# Altium integrated library Motorola Microcontroller 8-Bit.IntLib: 909 symbols (part 24 of 31)
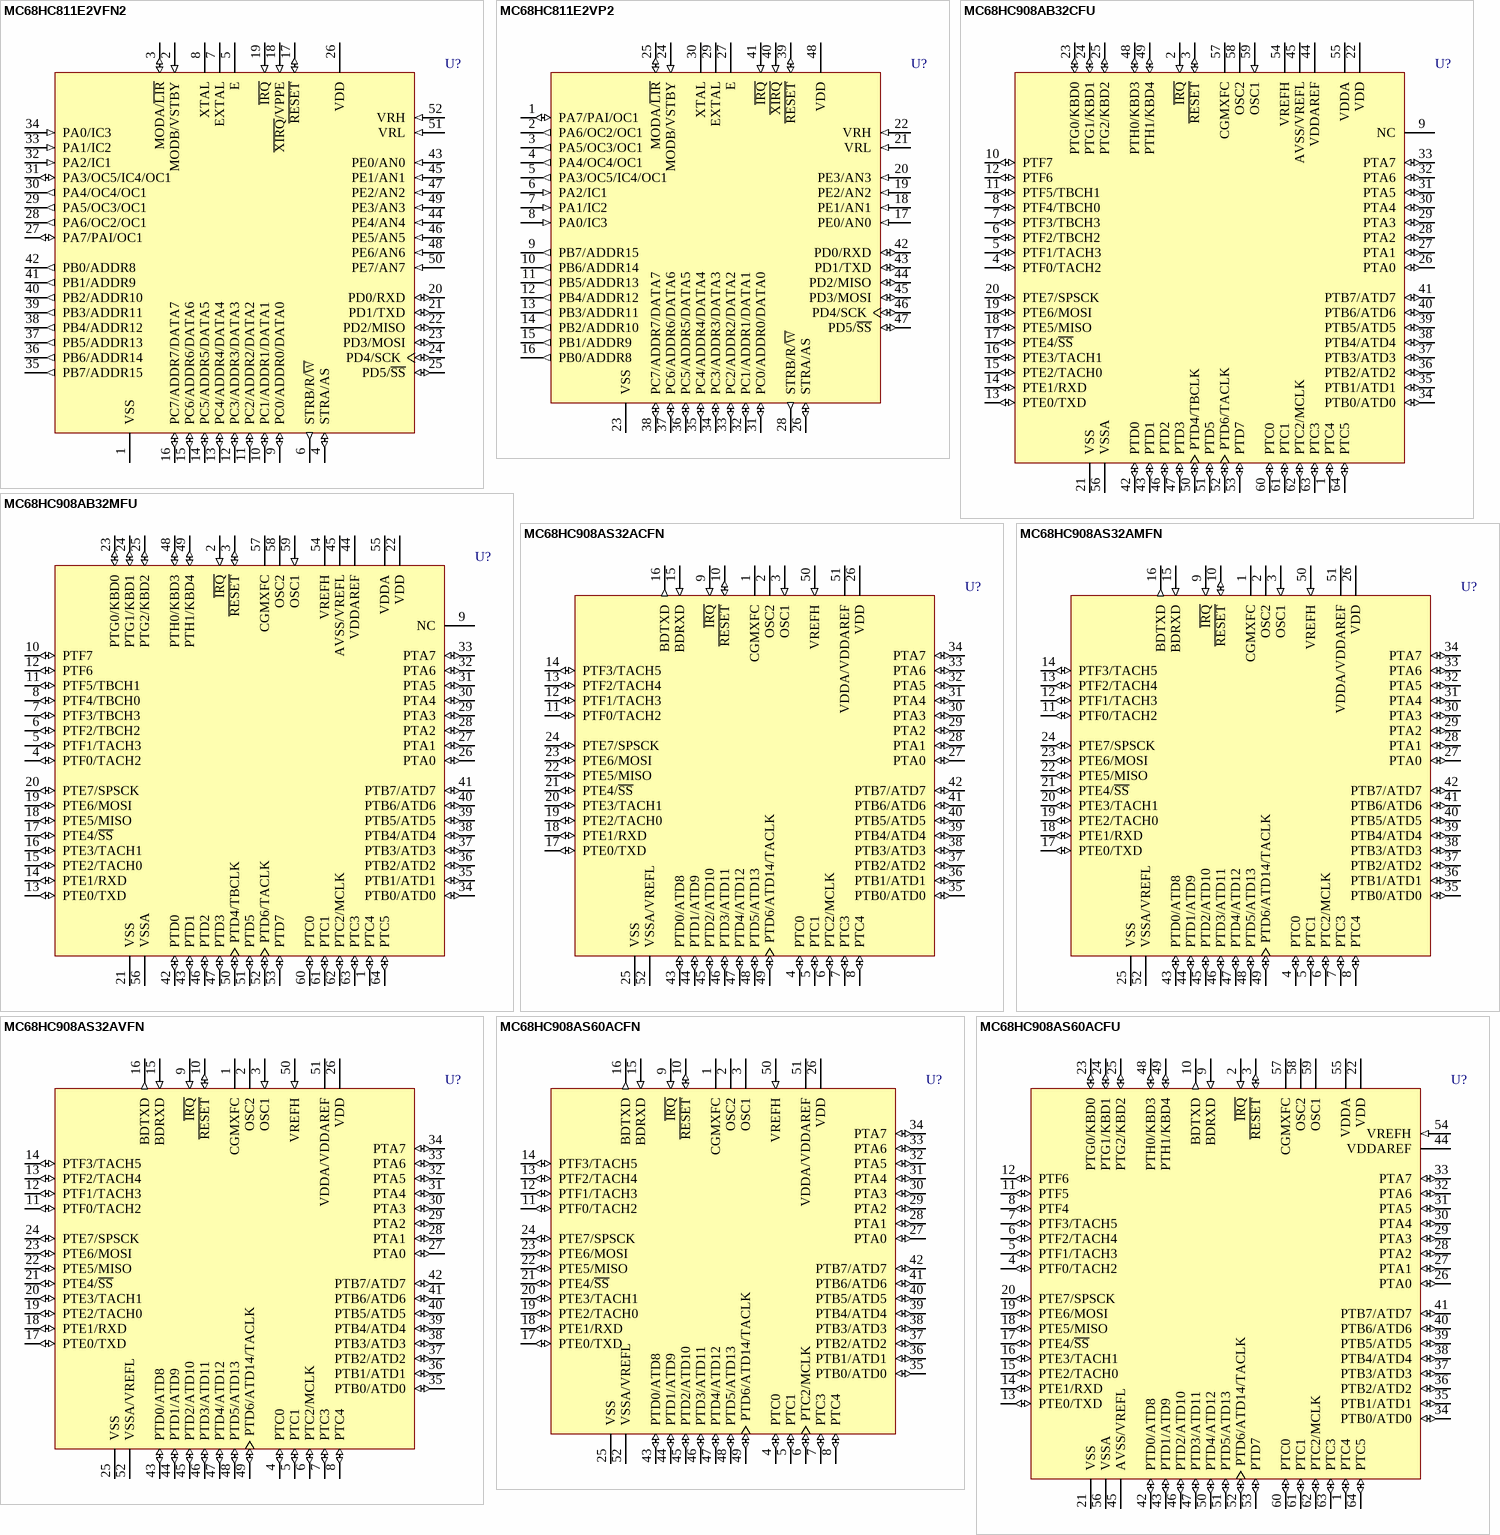
[diagram p136: symbols MC68HC811E2VFN2 to MC68HC908AS60ACFU]

## MC68HC908AB32CFU
designator U?
8-Bit Microcontroller; Published: 17-Jan-2003; LatestRevisionDate: 13-Apr-2006; LatestRevisionNote: IPC-7351 Footprint Added.; DatasheetVersion: Rev 1.0, 2000; PackageVersion: rev2, 2000; PackageReference: 840B-01; Publisher: Altium Limited; PackageDescription: 64-Pin Quad Flat Pack 0.8 mm Pitch; Code_IPC: QFP80P1720X1720-64; ComponentLink1Description: Manufacturer Link; ComponentLink1URL: http://www.freescale.com/; ComponentLink2Description: Datasheet; ComponentLink2URL: http://www.freescale.com/files/microcontrollers/doc/data_sheet/MC68HC908AB32.pdf
footprint 840B-01_N (QFP, 64-Leads, Body 14x14mm, Pitch 0.8mm, IPC Medium Density)
footprint 840B-01_L (QFP, 64-Leads, Body 14x14mm, Pitch 0.8mm, IPC High Density)
footprint 840B-01_M (QFP, 64-Leads, Body 14x14mm, Pitch 0.8mm, IPC Low Density)
3D model MC68HC908-840B-01 (64-Pin Quad Flat Pack 0.8 mm Pitch)
pins: 1 PTC4 (io), 2 ~{IRQ} (in), 3 ~{RESET} (io), 4 PTF0/TACH2 (io), 5 PTF1/TACH3 (io), 6 PTF2/TBCH2 (io), 7 PTF3/TBCH3 (io), 8 PTF4/TBCH0 (io), 9 NC, 10 PTF7 (io), 11 PTF5/TBCH1 (io), 12 PTF6 (io), 13 PTE0/TXD (io), 14 PTE1/RXD (io), 15 PTE2/TACH0 (io), 16 PTE3/TACH1 (io), 17 PTE4/~{SS} (io), 18 PTE5/MISO (io), 19 PTE6/MOSI (io), 20 PTE7/SPSCK (io), 21 VSS (power), 22 VDD (power), 23 PTG0/KBD0 (io), 24 PTG1/KBD1 (io), 25 PTG2/KBD2 (io), 26 PTA0 (io), 27 PTA1 (io), 28 PTA2 (io), 29 PTA3 (io), 30 PTA4 (io), 31 PTA5 (io), 32 PTA6 (io), 33 PTA7 (io), 34 PTB0/ATD0 (io), 35 PTB1/ATD1 (io), 36 PTB2/ATD2 (io), 37 PTB3/ATD3 (io), 38 PTB4/ATD4 (io), 39 PTB5/ATD5 (io), 40 PTB6/ATD6 (io), 41 PTB7/ATD7 (io), 42 PTD0 (io), 43 PTD1 (io), 44 VDDAREF (power), 45 AVSS/VREFL (power), 46 PTD2 (io), 47 PTD3 (io), 48 PTH0/KBD3 (io), 49 PTH1/KBD4 (io), 50 PTD4/TBCLK (io), 51 PTD5 (io), 52 PTD6/TACLK (io), 53 PTD7 (io), 54 VREFH (power), 55 VDDA (power), 56 VSSA (power), 57 CGMXFC, 58 OSC2, 59 OSC1 (in), 60 PTC0 (io), 61 PTC1 (io), 62 PTC2/MCLK (io), 63 PTC3 (io), 64 PTC5 (io)

## MC68HC908AB32MFU
designator U?
8-Bit Microcontroller; Published: 17-Jan-2003; LatestRevisionDate: 13-Apr-2006; LatestRevisionNote: IPC-7351 Footprint Added.; DatasheetVersion: Rev 1.0, 2000; PackageVersion: rev2, 2000; PackageReference: 840B-01; Publisher: Altium Limited; PackageDescription: 64-Pin Quad Flat Pack 0.8 mm Pitch; Code_IPC: QFP80P1720X1720-64; ComponentLink1Description: Manufacturer Link; ComponentLink1URL: http://www.freescale.com/; ComponentLink2Description: Datasheet; ComponentLink2URL: http://www.freescale.com/files/microcontrollers/doc/data_sheet/MC68HC908AB32.pdf
footprint 840B-01_N (QFP, 64-Leads, Body 14x14mm, Pitch 0.8mm, IPC Medium Density)
footprint 840B-01_L (QFP, 64-Leads, Body 14x14mm, Pitch 0.8mm, IPC High Density)
footprint 840B-01_M (QFP, 64-Leads, Body 14x14mm, Pitch 0.8mm, IPC Low Density)
3D model MC68HC908-840B-01 (64-Pin Quad Flat Pack 0.8 mm Pitch)
pins: 1 PTC4 (io), 2 ~{IRQ} (in), 3 ~{RESET} (io), 4 PTF0/TACH2 (io), 5 PTF1/TACH3 (io), 6 PTF2/TBCH2 (io), 7 PTF3/TBCH3 (io), 8 PTF4/TBCH0 (io), 9 NC, 10 PTF7 (io), 11 PTF5/TBCH1 (io), 12 PTF6 (io), 13 PTE0/TXD (io), 14 PTE1/RXD (io), 15 PTE2/TACH0 (io), 16 PTE3/TACH1 (io), 17 PTE4/~{SS} (io), 18 PTE5/MISO (io), 19 PTE6/MOSI (io), 20 PTE7/SPSCK (io), 21 VSS (power), 22 VDD (power), 23 PTG0/KBD0 (io), 24 PTG1/KBD1 (io), 25 PTG2/KBD2 (io), 26 PTA0 (io), 27 PTA1 (io), 28 PTA2 (io), 29 PTA3 (io), 30 PTA4 (io), 31 PTA5 (io), 32 PTA6 (io), 33 PTA7 (io), 34 PTB0/ATD0 (io), 35 PTB1/ATD1 (io), 36 PTB2/ATD2 (io), 37 PTB3/ATD3 (io), 38 PTB4/ATD4 (io), 39 PTB5/ATD5 (io), 40 PTB6/ATD6 (io), 41 PTB7/ATD7 (io), 42 PTD0 (io), 43 PTD1 (io), 44 VDDAREF (power), 45 AVSS/VREFL (power), 46 PTD2 (io), 47 PTD3 (io), 48 PTH0/KBD3 (io), 49 PTH1/KBD4 (io), 50 PTD4/TBCLK (io), 51 PTD5 (io), 52 PTD6/TACLK (io), 53 PTD7 (io), 54 VREFH (power), 55 VDDA (power), 56 VSSA (power), 57 CGMXFC, 58 OSC2, 59 OSC1 (in), 60 PTC0 (io), 61 PTC1 (io), 62 PTC2/MCLK (io), 63 PTC3 (io), 64 PTC5 (io)

## MC68HC908AS32ACFN
designator U?
8-Bit Microcontroller; Published: 17-Jan-2003; LatestRevisionDate: 13-Apr-2006; LatestRevisionNote: IPC-7351 Footprint Added.; DatasheetVersion: Rev 0.0, 5/2001; PackageVersion: rev3, 1997; PackageReference: 778-02; Publisher: Altium Limited; PackageDescription: 52-Pin Plastic Leaded Chip Carrier 1.27 mm Pitch; ComponentLink1Description: Manufacturer Link; ComponentLink1URL: http://www.freescale.com/
footprint 778-02_N (Leaded Chip Carrier, 52-Leads, Body 19x19mm, Pitch 1.27mm, IPC Medium Density)
footprint 778-02_L (Leaded Chip Carrier, 52-Leads, Body 19x19mm, Pitch 1.27mm, IPC High Density)
footprint 778-02_M (Leaded Chip Carrier, 52-Leads, Body 19x19mm, Pitch 1.27mm, IPC Low Density)
3D model MC68HC908-778-02 (52-Pin Plastic Leaded Chip Carrier 1.27 mm Pitch)
pins: 1 CGMXFC, 2 OSC2, 3 OSC1 (in), 4 PTC0 (io), 5 PTC1 (io), 6 PTC2/MCLK (io), 7 PTC3 (io), 8 PTC4 (io), 9 ~{IRQ} (in), 10 ~{RESET} (io), 11 PTF0/TACH2 (io), 12 PTF1/TACH3 (io), 13 PTF2/TACH4 (io), 14 PTF3/TACH5 (io), 15 BDRXD (in), 16 BDTXD (out), 17 PTE0/TXD (io), 18 PTE1/RXD (io), 19 PTE2/TACH0 (io), 20 PTE3/TACH1 (io), 21 PTE4/~{SS} (io), 22 PTE5/MISO (io), 23 PTE6/MOSI (io), 24 PTE7/SPSCK (io), 25 VSS (power), 26 VDD (power), 27 PTA0 (io), 28 PTA1 (io), 29 PTA2 (io), 30 PTA3 (io), 31 PTA4 (io), 32 PTA5 (io), 33 PTA6 (io), 34 PTA7 (io), 35 PTB0/ATD0 (io), 36 PTB1/ATD1 (io), 37 PTB2/ATD2 (io), 38 PTB3/ATD3 (io), 39 PTB4/ATD4 (io), 40 PTB5/ATD5 (io), 41 PTB6/ATD6 (io), 42 PTB7/ATD7 (io), 43 PTD0/ATD8 (io), 44 PTD1/ATD9 (io), 45 PTD2/ATD10 (io), 46 PTD3/ATD11 (io), 47 PTD4/ATD12 (io), 48 PTD5/ATD13 (io), 49 PTD6/ATD14/TACLK (io), 50 VREFH (in), 51 VDDA/VDDAREF (power), 52 VSSA/VREFL (power)

## MC68HC908AS32AMFN
designator U?
8-Bit Microcontroller; Published: 17-Jan-2003; LatestRevisionDate: 13-Apr-2006; LatestRevisionNote: IPC-7351 Footprint Added.; DatasheetVersion: Rev 0.0, 5/2001; PackageVersion: rev3, 1997; PackageReference: 778-02; Publisher: Altium Limited; PackageDescription: 52-Pin Plastic Leaded Chip Carrier 1.27 mm Pitch; ComponentLink1Description: Manufacturer Link; ComponentLink1URL: http://www.freescale.com/
footprint 778-02_N (Leaded Chip Carrier, 52-Leads, Body 19x19mm, Pitch 1.27mm, IPC Medium Density)
footprint 778-02_L (Leaded Chip Carrier, 52-Leads, Body 19x19mm, Pitch 1.27mm, IPC High Density)
footprint 778-02_M (Leaded Chip Carrier, 52-Leads, Body 19x19mm, Pitch 1.27mm, IPC Low Density)
3D model MC68HC908-778-02 (52-Pin Plastic Leaded Chip Carrier 1.27 mm Pitch)
pins: 1 CGMXFC, 2 OSC2, 3 OSC1 (in), 4 PTC0 (io), 5 PTC1 (io), 6 PTC2/MCLK (io), 7 PTC3 (io), 8 PTC4 (io), 9 ~{IRQ} (in), 10 ~{RESET} (io), 11 PTF0/TACH2 (io), 12 PTF1/TACH3 (io), 13 PTF2/TACH4 (io), 14 PTF3/TACH5 (io), 15 BDRXD (in), 16 BDTXD (out), 17 PTE0/TXD (io), 18 PTE1/RXD (io), 19 PTE2/TACH0 (io), 20 PTE3/TACH1 (io), 21 PTE4/~{SS} (io), 22 PTE5/MISO (io), 23 PTE6/MOSI (io), 24 PTE7/SPSCK (io), 25 VSS (power), 26 VDD (power), 27 PTA0 (io), 28 PTA1 (io), 29 PTA2 (io), 30 PTA3 (io), 31 PTA4 (io), 32 PTA5 (io), 33 PTA6 (io), 34 PTA7 (io), 35 PTB0/ATD0 (io), 36 PTB1/ATD1 (io), 37 PTB2/ATD2 (io), 38 PTB3/ATD3 (io), 39 PTB4/ATD4 (io), 40 PTB5/ATD5 (io), 41 PTB6/ATD6 (io), 42 PTB7/ATD7 (io), 43 PTD0/ATD8 (io), 44 PTD1/ATD9 (io), 45 PTD2/ATD10 (io), 46 PTD3/ATD11 (io), 47 PTD4/ATD12 (io), 48 PTD5/ATD13 (io), 49 PTD6/ATD14/TACLK (io), 50 VREFH (in), 51 VDDA/VDDAREF (power), 52 VSSA/VREFL (power)

## MC68HC908AS32AVFN
designator U?
8-Bit Microcontroller; Published: 17-Jan-2003; LatestRevisionDate: 13-Apr-2006; LatestRevisionNote: IPC-7351 Footprint Added.; DatasheetVersion: Rev 0.0, 5/2001; PackageVersion: rev3, 1997; PackageReference: 778-02; Publisher: Altium Limited; PackageDescription: 52-Pin Plastic Leaded Chip Carrier 1.27 mm Pitch; ComponentLink1Description: Manufacturer Link; ComponentLink1URL: http://www.freescale.com/
footprint 778-02_N (Leaded Chip Carrier, 52-Leads, Body 19x19mm, Pitch 1.27mm, IPC Medium Density)
footprint 778-02_L (Leaded Chip Carrier, 52-Leads, Body 19x19mm, Pitch 1.27mm, IPC High Density)
footprint 778-02_M (Leaded Chip Carrier, 52-Leads, Body 19x19mm, Pitch 1.27mm, IPC Low Density)
3D model MC68HC908-778-02 (52-Pin Plastic Leaded Chip Carrier 1.27 mm Pitch)
pins: 1 CGMXFC, 2 OSC2, 3 OSC1 (in), 4 PTC0 (io), 5 PTC1 (io), 6 PTC2/MCLK (io), 7 PTC3 (io), 8 PTC4 (io), 9 ~{IRQ} (in), 10 ~{RESET} (io), 11 PTF0/TACH2 (io), 12 PTF1/TACH3 (io), 13 PTF2/TACH4 (io), 14 PTF3/TACH5 (io), 15 BDRXD (in), 16 BDTXD (out), 17 PTE0/TXD (io), 18 PTE1/RXD (io), 19 PTE2/TACH0 (io), 20 PTE3/TACH1 (io), 21 PTE4/~{SS} (io), 22 PTE5/MISO (io), 23 PTE6/MOSI (io), 24 PTE7/SPSCK (io), 25 VSS (power), 26 VDD (power), 27 PTA0 (io), 28 PTA1 (io), 29 PTA2 (io), 30 PTA3 (io), 31 PTA4 (io), 32 PTA5 (io), 33 PTA6 (io), 34 PTA7 (io), 35 PTB0/ATD0 (io), 36 PTB1/ATD1 (io), 37 PTB2/ATD2 (io), 38 PTB3/ATD3 (io), 39 PTB4/ATD4 (io), 40 PTB5/ATD5 (io), 41 PTB6/ATD6 (io), 42 PTB7/ATD7 (io), 43 PTD0/ATD8 (io), 44 PTD1/ATD9 (io), 45 PTD2/ATD10 (io), 46 PTD3/ATD11 (io), 47 PTD4/ATD12 (io), 48 PTD5/ATD13 (io), 49 PTD6/ATD14/TACLK (io), 50 VREFH (in), 51 VDDA/VDDAREF (power), 52 VSSA/VREFL (power)

## MC68HC908AS60ACFN
designator U?
8-Bit Microcontroller; Published: 17-Jan-2003; LatestRevisionDate: 13-Apr-2006; LatestRevisionNote: IPC-7351 Footprint Added.; DatasheetVersion: Rev 2, 2001; PackageVersion: rev3, 1997; PackageReference: 778-02; Publisher: Altium Limited; PackageDescription: 52-Pin Plastic Leaded Chip Carrier 1.27 mm Pitch; ComponentLink1Description: Manufacturer Link; ComponentLink1URL: http://www.freescale.com/
footprint 778-02_N (Leaded Chip Carrier, 52-Leads, Body 19x19mm, Pitch 1.27mm, IPC Medium Density)
footprint 778-02_L (Leaded Chip Carrier, 52-Leads, Body 19x19mm, Pitch 1.27mm, IPC High Density)
footprint 778-02_M (Leaded Chip Carrier, 52-Leads, Body 19x19mm, Pitch 1.27mm, IPC Low Density)
3D model MC68HC908-778-02 (52-Pin Plastic Leaded Chip Carrier 1.27 mm Pitch)
pins: 1 CGMXFC, 2 OSC2, 3 OSC1, 4 PTC0 (io), 5 PTC1 (io), 6 PTC2/MCLK (io), 7 PTC3 (io), 8 PTC4 (io), 9 ~{IRQ} (in), 10 ~{RESET} (io), 11 PTF0/TACH2 (io), 12 PTF1/TACH3 (io), 13 PTF2/TACH4 (io), 14 PTF3/TACH5 (io), 15 BDRXD (in), 16 BDTXD (out), 17 PTE0/TXD (io), 18 PTE1/RXD (io), 19 PTE2/TACH0 (io), 20 PTE3/TACH1 (io), 21 PTE4/~{SS} (io), 22 PTE5/MISO (io), 23 PTE6/MOSI (io), 24 PTE7/SPSCK (io), 25 VSS (power), 26 VDD (power), 27 PTA0 (io), 28 PTA1 (io), 29 PTA2 (io), 30 PTA3 (io), 31 PTA4 (io), 32 PTA5 (io), 33 PTA6 (io), 34 PTA7 (io), 35 PTB0/ATD0 (io), 36 PTB1/ATD1 (io), 37 PTB2/ATD2 (io), 38 PTB3/ATD3 (io), 39 PTB4/ATD4 (io), 40 PTB5/ATD5 (io), 41 PTB6/ATD6 (io), 42 PTB7/ATD7 (io), 43 PTD0/ATD8 (io), 44 PTD1/ATD9 (io), 45 PTD2/ATD10 (io), 46 PTD3/ATD11 (io), 47 PTD4/ATD12 (io), 48 PTD5/ATD13 (io), 49 PTD6/ATD14/TACLK (io), 50 VREFH (in), 51 VDDA/VDDAREF (power), 52 VSSA/VREFL (power)

## MC68HC908AS60ACFU
designator U?
8-Bit Microcontroller; Published: 17-Jan-2003; LatestRevisionDate: 13-Apr-2006; LatestRevisionNote: IPC-7351 Footprint Added.; DatasheetVersion: Rev 2, 2001; PackageVersion: rev2, 2000; PackageReference: 840B-01; Publisher: Altium Limited; PackageDescription: 64-Pin Quad Flat Pack 0.8 mm Pitch; Code_IPC: QFP80P1720X1720-64; ComponentLink1Description: Manufacturer Link; ComponentLink1URL: http://www.freescale.com/
footprint 840B-01_N (QFP, 64-Leads, Body 14x14mm, Pitch 0.8mm, IPC Medium Density)
footprint 840B-01_L (QFP, 64-Leads, Body 14x14mm, Pitch 0.8mm, IPC High Density)
footprint 840B-01_M (QFP, 64-Leads, Body 14x14mm, Pitch 0.8mm, IPC Low Density)
3D model MC68HC908-840B-01 (64-Pin Quad Flat Pack 0.8 mm Pitch)
pins: 1 PTC4 (io), 2 ~{IRQ} (in), 3 ~{RESET} (io), 4 PTF0/TACH2 (io), 5 PTF1/TACH3 (io), 6 PTF2/TACH4 (io), 7 PTF3/TACH5 (io), 8 PTF4 (io), 9 BDRXD (in), 10 BDTXD (out), 11 PTF5 (io), 12 PTF6 (io), 13 PTE0/TXD (io), 14 PTE1/RXD (io), 15 PTE2/TACH0 (io), 16 PTE3/TACH1 (io), 17 PTE4/~{SS} (io), 18 PTE5/MISO (io), 19 PTE6/MOSI (io), 20 PTE7/SPSCK (io), 21 VSS (power), 22 VDD (power), 23 PTG0/KBD0 (io), 24 PTG1/KBD1 (io), 25 PTG2/KBD2 (io), 26 PTA0 (io), 27 PTA1 (io), 28 PTA2 (io), 29 PTA3 (io), 30 PTA4 (io), 31 PTA5 (io), 32 PTA6 (io), 33 PTA7 (io), 34 PTB0/ATD0 (io), 35 PTB1/ATD1 (io), 36 PTB2/ATD2 (io), 37 PTB3/ATD3 (io), 38 PTB4/ATD4 (io), 39 PTB5/ATD5 (io), 40 PTB6/ATD6 (io), 41 PTB7/ATD7 (io), 42 PTD0/ATD8 (io), 43 PTD1/ATD9 (io), 44 VDDAREF (power), 45 AVSS/VREFL (power), 46 PTD2/ATD10 (io), 47 PTD3/ATD11 (io), 48 PTH0/KBD3 (io), 49 PTH1/KBD4 (io), 50 PTD4/ATD12 (io), 51 PTD5/ATD13 (io), 52 PTD6/ATD14/TACLK (io), 53 PTD7 (io), 54 VREFH (in), 55 VDDA (power), 56 VSSA (power), 57 CGMXFC, 58 OSC2, 59 OSC1, 60 PTC0 (io), 61 PTC1 (io), 62 PTC2/MCLK (io), 63 PTC3 (io), 64 PTC5 (io)

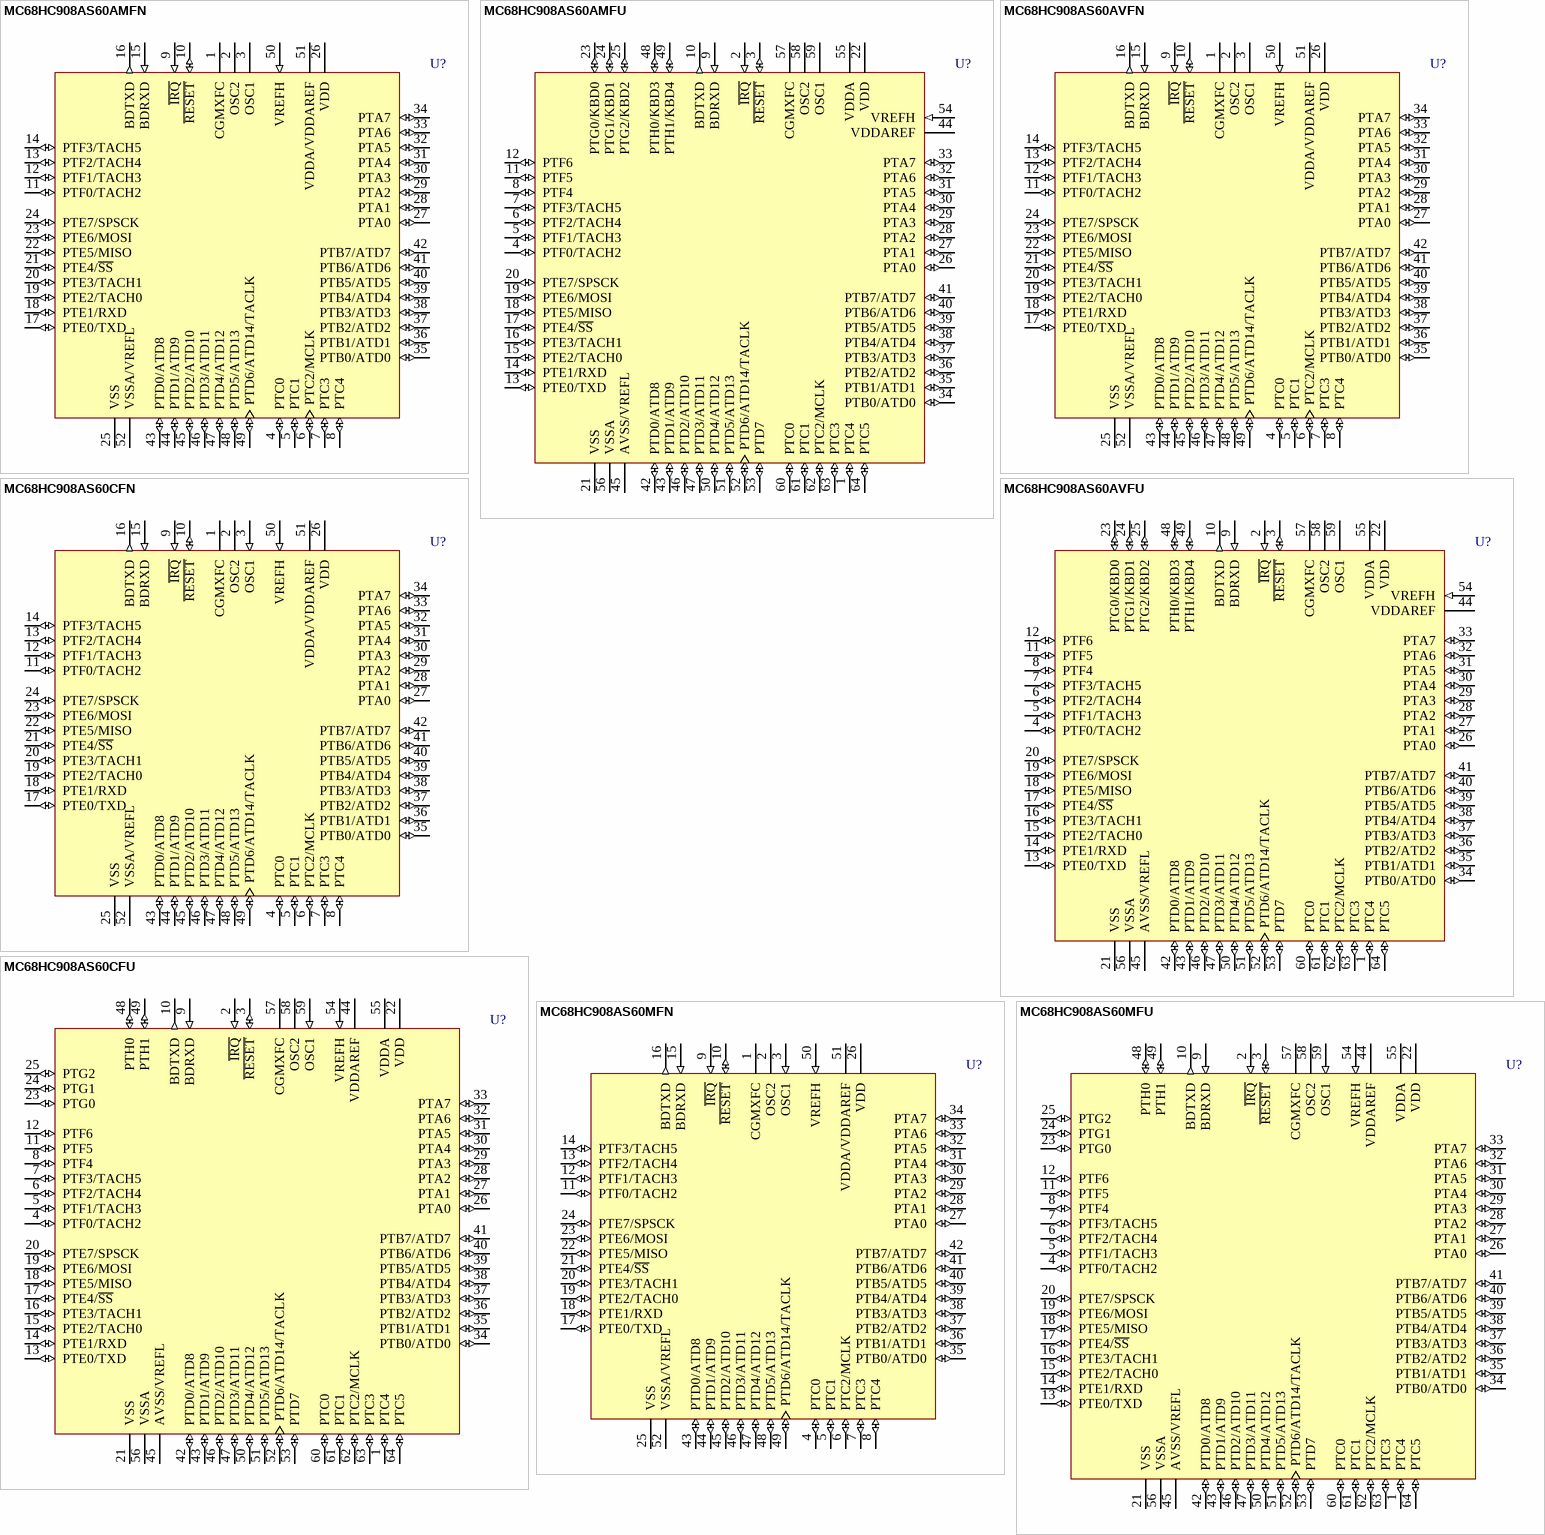
[diagram p91: symbols MC68HC908AS60AMFN to MC68HC908AS60MFU]

## MC68HC908AS60AMFN
designator U?
8-Bit Microcontroller; Published: 17-Jan-2003; LatestRevisionDate: 13-Apr-2006; LatestRevisionNote: IPC-7351 Footprint Added.; DatasheetVersion: Rev 2, 2001; PackageVersion: rev3, 1997; PackageReference: 778-02; Publisher: Altium Limited; PackageDescription: 52-Pin Plastic Leaded Chip Carrier 1.27 mm Pitch; ComponentLink1Description: Manufacturer Link; ComponentLink1URL: http://www.freescale.com/
footprint 778-02_N (Leaded Chip Carrier, 52-Leads, Body 19x19mm, Pitch 1.27mm, IPC Medium Density)
footprint 778-02_L (Leaded Chip Carrier, 52-Leads, Body 19x19mm, Pitch 1.27mm, IPC High Density)
footprint 778-02_M (Leaded Chip Carrier, 52-Leads, Body 19x19mm, Pitch 1.27mm, IPC Low Density)
3D model MC68HC908-778-02 (52-Pin Plastic Leaded Chip Carrier 1.27 mm Pitch)
pins: 1 CGMXFC, 2 OSC2, 3 OSC1, 4 PTC0 (io), 5 PTC1 (io), 6 PTC2/MCLK (io), 7 PTC3 (io), 8 PTC4 (io), 9 ~{IRQ} (in), 10 ~{RESET} (io), 11 PTF0/TACH2 (io), 12 PTF1/TACH3 (io), 13 PTF2/TACH4 (io), 14 PTF3/TACH5 (io), 15 BDRXD (in), 16 BDTXD (out), 17 PTE0/TXD (io), 18 PTE1/RXD (io), 19 PTE2/TACH0 (io), 20 PTE3/TACH1 (io), 21 PTE4/~{SS} (io), 22 PTE5/MISO (io), 23 PTE6/MOSI (io), 24 PTE7/SPSCK (io), 25 VSS (power), 26 VDD (power), 27 PTA0 (io), 28 PTA1 (io), 29 PTA2 (io), 30 PTA3 (io), 31 PTA4 (io), 32 PTA5 (io), 33 PTA6 (io), 34 PTA7 (io), 35 PTB0/ATD0 (io), 36 PTB1/ATD1 (io), 37 PTB2/ATD2 (io), 38 PTB3/ATD3 (io), 39 PTB4/ATD4 (io), 40 PTB5/ATD5 (io), 41 PTB6/ATD6 (io), 42 PTB7/ATD7 (io), 43 PTD0/ATD8 (io), 44 PTD1/ATD9 (io), 45 PTD2/ATD10 (io), 46 PTD3/ATD11 (io), 47 PTD4/ATD12 (io), 48 PTD5/ATD13 (io), 49 PTD6/ATD14/TACLK (io), 50 VREFH (in), 51 VDDA/VDDAREF (power), 52 VSSA/VREFL (power)

## MC68HC908AS60AMFU
designator U?
8-Bit Microcontroller; Published: 17-Jan-2003; LatestRevisionDate: 13-Apr-2006; LatestRevisionNote: IPC-7351 Footprint Added.; DatasheetVersion: Rev 2, 2001; PackageVersion: rev2, 2000; PackageReference: 840B-01; Publisher: Altium Limited; PackageDescription: 64-Pin Quad Flat Pack 0.8 mm Pitch; Code_IPC: QFP80P1720X1720-64; ComponentLink1Description: Manufacturer Link; ComponentLink1URL: http://www.freescale.com/
footprint 840B-01_N (QFP, 64-Leads, Body 14x14mm, Pitch 0.8mm, IPC Medium Density)
footprint 840B-01_L (QFP, 64-Leads, Body 14x14mm, Pitch 0.8mm, IPC High Density)
footprint 840B-01_M (QFP, 64-Leads, Body 14x14mm, Pitch 0.8mm, IPC Low Density)
3D model MC68HC908-840B-01 (64-Pin Quad Flat Pack 0.8 mm Pitch)
pins: 1 PTC4 (io), 2 ~{IRQ} (in), 3 ~{RESET} (io), 4 PTF0/TACH2 (io), 5 PTF1/TACH3 (io), 6 PTF2/TACH4 (io), 7 PTF3/TACH5 (io), 8 PTF4 (io), 9 BDRXD (in), 10 BDTXD (out), 11 PTF5 (io), 12 PTF6 (io), 13 PTE0/TXD (io), 14 PTE1/RXD (io), 15 PTE2/TACH0 (io), 16 PTE3/TACH1 (io), 17 PTE4/~{SS} (io), 18 PTE5/MISO (io), 19 PTE6/MOSI (io), 20 PTE7/SPSCK (io), 21 VSS (power), 22 VDD (power), 23 PTG0/KBD0 (io), 24 PTG1/KBD1 (io), 25 PTG2/KBD2 (io), 26 PTA0 (io), 27 PTA1 (io), 28 PTA2 (io), 29 PTA3 (io), 30 PTA4 (io), 31 PTA5 (io), 32 PTA6 (io), 33 PTA7 (io), 34 PTB0/ATD0 (io), 35 PTB1/ATD1 (io), 36 PTB2/ATD2 (io), 37 PTB3/ATD3 (io), 38 PTB4/ATD4 (io), 39 PTB5/ATD5 (io), 40 PTB6/ATD6 (io), 41 PTB7/ATD7 (io), 42 PTD0/ATD8 (io), 43 PTD1/ATD9 (io), 44 VDDAREF (power), 45 AVSS/VREFL (power), 46 PTD2/ATD10 (io), 47 PTD3/ATD11 (io), 48 PTH0/KBD3 (io), 49 PTH1/KBD4 (io), 50 PTD4/ATD12 (io), 51 PTD5/ATD13 (io), 52 PTD6/ATD14/TACLK (io), 53 PTD7 (io), 54 VREFH (in), 55 VDDA (power), 56 VSSA (power), 57 CGMXFC, 58 OSC2, 59 OSC1, 60 PTC0 (io), 61 PTC1 (io), 62 PTC2/MCLK (io), 63 PTC3 (io), 64 PTC5 (io)

## MC68HC908AS60AVFN
designator U?
8-Bit Microcontroller; Published: 17-Jan-2003; LatestRevisionDate: 13-Apr-2006; LatestRevisionNote: IPC-7351 Footprint Added.; DatasheetVersion: Rev 2, 2001; PackageVersion: rev3, 1997; PackageReference: 778-02; Publisher: Altium Limited; PackageDescription: 52-Pin Plastic Leaded Chip Carrier 1.27 mm Pitch; ComponentLink1Description: Manufacturer Link; ComponentLink1URL: http://www.freescale.com/
footprint 778-02_N (Leaded Chip Carrier, 52-Leads, Body 19x19mm, Pitch 1.27mm, IPC Medium Density)
footprint 778-02_L (Leaded Chip Carrier, 52-Leads, Body 19x19mm, Pitch 1.27mm, IPC High Density)
footprint 778-02_M (Leaded Chip Carrier, 52-Leads, Body 19x19mm, Pitch 1.27mm, IPC Low Density)
3D model MC68HC908-778-02 (52-Pin Plastic Leaded Chip Carrier 1.27 mm Pitch)
pins: 1 CGMXFC, 2 OSC2, 3 OSC1, 4 PTC0 (io), 5 PTC1 (io), 6 PTC2/MCLK (io), 7 PTC3 (io), 8 PTC4 (io), 9 ~{IRQ} (in), 10 ~{RESET} (io), 11 PTF0/TACH2 (io), 12 PTF1/TACH3 (io), 13 PTF2/TACH4 (io), 14 PTF3/TACH5 (io), 15 BDRXD (in), 16 BDTXD (out), 17 PTE0/TXD (io), 18 PTE1/RXD (io), 19 PTE2/TACH0 (io), 20 PTE3/TACH1 (io), 21 PTE4/~{SS} (io), 22 PTE5/MISO (io), 23 PTE6/MOSI (io), 24 PTE7/SPSCK (io), 25 VSS (power), 26 VDD (power), 27 PTA0 (io), 28 PTA1 (io), 29 PTA2 (io), 30 PTA3 (io), 31 PTA4 (io), 32 PTA5 (io), 33 PTA6 (io), 34 PTA7 (io), 35 PTB0/ATD0 (io), 36 PTB1/ATD1 (io), 37 PTB2/ATD2 (io), 38 PTB3/ATD3 (io), 39 PTB4/ATD4 (io), 40 PTB5/ATD5 (io), 41 PTB6/ATD6 (io), 42 PTB7/ATD7 (io), 43 PTD0/ATD8 (io), 44 PTD1/ATD9 (io), 45 PTD2/ATD10 (io), 46 PTD3/ATD11 (io), 47 PTD4/ATD12 (io), 48 PTD5/ATD13 (io), 49 PTD6/ATD14/TACLK (io), 50 VREFH (in), 51 VDDA/VDDAREF (power), 52 VSSA/VREFL (power)

## MC68HC908AS60AVFU
designator U?
8-Bit Microcontroller; Published: 17-Jan-2003; LatestRevisionDate: 13-Apr-2006; LatestRevisionNote: IPC-7351 Footprint Added.; DatasheetVersion: Rev 2, 2001; PackageVersion: rev2, 2000; PackageReference: 840B-01; Publisher: Altium Limited; PackageDescription: 64-Pin Quad Flat Pack 0.8 mm Pitch; Code_IPC: QFP80P1720X1720-64; ComponentLink1Description: Manufacturer Link; ComponentLink1URL: http://www.freescale.com/
footprint 840B-01_N (QFP, 64-Leads, Body 14x14mm, Pitch 0.8mm, IPC Medium Density)
footprint 840B-01_L (QFP, 64-Leads, Body 14x14mm, Pitch 0.8mm, IPC High Density)
footprint 840B-01_M (QFP, 64-Leads, Body 14x14mm, Pitch 0.8mm, IPC Low Density)
3D model MC68HC908-840B-01 (64-Pin Quad Flat Pack 0.8 mm Pitch)
pins: 1 PTC4 (io), 2 ~{IRQ} (in), 3 ~{RESET} (io), 4 PTF0/TACH2 (io), 5 PTF1/TACH3 (io), 6 PTF2/TACH4 (io), 7 PTF3/TACH5 (io), 8 PTF4 (io), 9 BDRXD (in), 10 BDTXD (out), 11 PTF5 (io), 12 PTF6 (io), 13 PTE0/TXD (io), 14 PTE1/RXD (io), 15 PTE2/TACH0 (io), 16 PTE3/TACH1 (io), 17 PTE4/~{SS} (io), 18 PTE5/MISO (io), 19 PTE6/MOSI (io), 20 PTE7/SPSCK (io), 21 VSS (power), 22 VDD (power), 23 PTG0/KBD0 (io), 24 PTG1/KBD1 (io), 25 PTG2/KBD2 (io), 26 PTA0 (io), 27 PTA1 (io), 28 PTA2 (io), 29 PTA3 (io), 30 PTA4 (io), 31 PTA5 (io), 32 PTA6 (io), 33 PTA7 (io), 34 PTB0/ATD0 (io), 35 PTB1/ATD1 (io), 36 PTB2/ATD2 (io), 37 PTB3/ATD3 (io), 38 PTB4/ATD4 (io), 39 PTB5/ATD5 (io), 40 PTB6/ATD6 (io), 41 PTB7/ATD7 (io), 42 PTD0/ATD8 (io), 43 PTD1/ATD9 (io), 44 VDDAREF (power), 45 AVSS/VREFL (power), 46 PTD2/ATD10 (io), 47 PTD3/ATD11 (io), 48 PTH0/KBD3 (io), 49 PTH1/KBD4 (io), 50 PTD4/ATD12 (io), 51 PTD5/ATD13 (io), 52 PTD6/ATD14/TACLK (io), 53 PTD7 (io), 54 VREFH (in), 55 VDDA (power), 56 VSSA (power), 57 CGMXFC, 58 OSC2, 59 OSC1, 60 PTC0 (io), 61 PTC1 (io), 62 PTC2/MCLK (io), 63 PTC3 (io), 64 PTC5 (io)

## MC68HC908AS60CFN
designator U?
8-Bit Microcontroller; Published: 17-Jan-2003; LatestRevisionDate: 13-Apr-2006; LatestRevisionNote: IPC-7351 Footprint Added.; DatasheetVersion: Rev 1.0, 2000; PackageVersion: rev3, 1997; PackageReference: 778-02; Publisher: Altium Limited; PackageDescription: 52-Pin Plastic Leaded Chip Carrier 1.27 mm Pitch; ComponentLink1Description: Manufacturer Link; ComponentLink1URL: http://www.freescale.com/; ComponentLink2Description: Datasheet; ComponentLink2URL: http://www.freescale.com/files/microcontrollers/doc/data_sheet/MC68HC908AS60.pdf
footprint 778-02_N (Leaded Chip Carrier, 52-Leads, Body 19x19mm, Pitch 1.27mm, IPC Medium Density)
footprint 778-02_L (Leaded Chip Carrier, 52-Leads, Body 19x19mm, Pitch 1.27mm, IPC High Density)
footprint 778-02_M (Leaded Chip Carrier, 52-Leads, Body 19x19mm, Pitch 1.27mm, IPC Low Density)
3D model MC68HC908-778-02 (52-Pin Plastic Leaded Chip Carrier 1.27 mm Pitch)
pins: 1 CGMXFC, 2 OSC2, 3 OSC1 (in), 4 PTC0 (io), 5 PTC1 (io), 6 PTC2/MCLK (io), 7 PTC3 (io), 8 PTC4 (io), 9 ~{IRQ} (in), 10 ~{RESET} (io), 11 PTF0/TACH2 (io), 12 PTF1/TACH3 (io), 13 PTF2/TACH4 (io), 14 PTF3/TACH5 (io), 15 BDRXD (in), 16 BDTXD (out), 17 PTE0/TXD (io), 18 PTE1/RXD (io), 19 PTE2/TACH0 (io), 20 PTE3/TACH1 (io), 21 PTE4/~{SS} (io), 22 PTE5/MISO (io), 23 PTE6/MOSI (io), 24 PTE7/SPSCK (io), 25 VSS (power), 26 VDD (power), 27 PTA0 (io), 28 PTA1 (io), 29 PTA2 (io), 30 PTA3 (io), 31 PTA4 (io), 32 PTA5 (io), 33 PTA6 (io), 34 PTA7 (io), 35 PTB0/ATD0 (io), 36 PTB1/ATD1 (io), 37 PTB2/ATD2 (io), 38 PTB3/ATD3 (io), 39 PTB4/ATD4 (io), 40 PTB5/ATD5 (io), 41 PTB6/ATD6 (io), 42 PTB7/ATD7 (io), 43 PTD0/ATD8 (io), 44 PTD1/ATD9 (io), 45 PTD2/ATD10 (io), 46 PTD3/ATD11 (io), 47 PTD4/ATD12 (io), 48 PTD5/ATD13 (io), 49 PTD6/ATD14/TACLK (io), 50 VREFH (in), 51 VDDA/VDDAREF (power), 52 VSSA/VREFL (power)

## MC68HC908AS60CFU
designator U?
8-Bit Microcontroller; Published: 17-Jan-2003; LatestRevisionDate: 13-Apr-2006; LatestRevisionNote: IPC-7351 Footprint Added.; DatasheetVersion: Rev 1.0, 2000; PackageVersion: rev2, 2000; PackageReference: 840B-01; Publisher: Altium Limited; PackageDescription: 64-Pin Quad Flat Pack 0.8 mm Pitch; Code_IPC: QFP80P1720X1720-64; ComponentLink1Description: Manufacturer Link; ComponentLink1URL: http://www.freescale.com/; ComponentLink2Description: Datasheet; ComponentLink2URL: http://www.freescale.com/files/microcontrollers/doc/data_sheet/MC68HC908AS60.pdf
footprint 840B-01_N (QFP, 64-Leads, Body 14x14mm, Pitch 0.8mm, IPC Medium Density)
footprint 840B-01_L (QFP, 64-Leads, Body 14x14mm, Pitch 0.8mm, IPC High Density)
footprint 840B-01_M (QFP, 64-Leads, Body 14x14mm, Pitch 0.8mm, IPC Low Density)
3D model MC68HC908-840B-01 (64-Pin Quad Flat Pack 0.8 mm Pitch)
pins: 1 PTC4 (io), 2 ~{IRQ} (in), 3 ~{RESET} (io), 4 PTF0/TACH2 (io), 5 PTF1/TACH3 (io), 6 PTF2/TACH4 (io), 7 PTF3/TACH5 (io), 8 PTF4 (io), 9 BDRXD (in), 10 BDTXD (out), 11 PTF5 (io), 12 PTF6 (io), 13 PTE0/TXD (io), 14 PTE1/RXD (io), 15 PTE2/TACH0 (io), 16 PTE3/TACH1 (io), 17 PTE4/~{SS} (io), 18 PTE5/MISO (io), 19 PTE6/MOSI (io), 20 PTE7/SPSCK (io), 21 VSS (power), 22 VDD (power), 23 PTG0 (io), 24 PTG1 (io), 25 PTG2 (io), 26 PTA0 (io), 27 PTA1 (io), 28 PTA2 (io), 29 PTA3 (io), 30 PTA4 (io), 31 PTA5 (io), 32 PTA6 (io), 33 PTA7 (io), 34 PTB0/ATD0 (io), 35 PTB1/ATD1 (io), 36 PTB2/ATD2 (io), 37 PTB3/ATD3 (io), 38 PTB4/ATD4 (io), 39 PTB5/ATD5 (io), 40 PTB6/ATD6 (io), 41 PTB7/ATD7 (io), 42 PTD0/ATD8 (io), 43 PTD1/ATD9 (io), 44 VDDAREF (power), 45 AVSS/VREFL (power), 46 PTD2/ATD10 (io), 47 PTD3/ATD11 (io), 48 PTH0 (io), 49 PTH1 (io), 50 PTD4/ATD12 (io), 51 PTD5/ATD13 (io), 52 PTD6/ATD14/TACLK (io), 53 PTD7 (io), 54 VREFH (in), 55 VDDA (power), 56 VSSA (power), 57 CGMXFC, 58 OSC2, 59 OSC1 (in), 60 PTC0 (io), 61 PTC1 (io), 62 PTC2/MCLK (io), 63 PTC3 (io), 64 PTC5 (io)

## MC68HC908AS60MFN
designator U?
8-Bit Microcontroller; Published: 17-Jan-2003; LatestRevisionDate: 13-Apr-2006; LatestRevisionNote: IPC-7351 Footprint Added.; DatasheetVersion: Rev 1.0, 2000; PackageVersion: rev3, 1997; PackageReference: 778-02; Publisher: Altium Limited; PackageDescription: 52-Pin Plastic Leaded Chip Carrier 1.27 mm Pitch; ComponentLink1Description: Manufacturer Link; ComponentLink1URL: http://www.freescale.com/; ComponentLink2Description: Datasheet; ComponentLink2URL: http://www.freescale.com/files/microcontrollers/doc/data_sheet/MC68HC908AS60.pdf
footprint 778-02_N (Leaded Chip Carrier, 52-Leads, Body 19x19mm, Pitch 1.27mm, IPC Medium Density)
footprint 778-02_L (Leaded Chip Carrier, 52-Leads, Body 19x19mm, Pitch 1.27mm, IPC High Density)
footprint 778-02_M (Leaded Chip Carrier, 52-Leads, Body 19x19mm, Pitch 1.27mm, IPC Low Density)
3D model MC68HC908-778-02 (52-Pin Plastic Leaded Chip Carrier 1.27 mm Pitch)
pins: 1 CGMXFC, 2 OSC2, 3 OSC1 (in), 4 PTC0 (io), 5 PTC1 (io), 6 PTC2/MCLK (io), 7 PTC3 (io), 8 PTC4 (io), 9 ~{IRQ} (in), 10 ~{RESET} (io), 11 PTF0/TACH2 (io), 12 PTF1/TACH3 (io), 13 PTF2/TACH4 (io), 14 PTF3/TACH5 (io), 15 BDRXD (in), 16 BDTXD (out), 17 PTE0/TXD (io), 18 PTE1/RXD (io), 19 PTE2/TACH0 (io), 20 PTE3/TACH1 (io), 21 PTE4/~{SS} (io), 22 PTE5/MISO (io), 23 PTE6/MOSI (io), 24 PTE7/SPSCK (io), 25 VSS (power), 26 VDD (power), 27 PTA0 (io), 28 PTA1 (io), 29 PTA2 (io), 30 PTA3 (io), 31 PTA4 (io), 32 PTA5 (io), 33 PTA6 (io), 34 PTA7 (io), 35 PTB0/ATD0 (io), 36 PTB1/ATD1 (io), 37 PTB2/ATD2 (io), 38 PTB3/ATD3 (io), 39 PTB4/ATD4 (io), 40 PTB5/ATD5 (io), 41 PTB6/ATD6 (io), 42 PTB7/ATD7 (io), 43 PTD0/ATD8 (io), 44 PTD1/ATD9 (io), 45 PTD2/ATD10 (io), 46 PTD3/ATD11 (io), 47 PTD4/ATD12 (io), 48 PTD5/ATD13 (io), 49 PTD6/ATD14/TACLK (io), 50 VREFH (in), 51 VDDA/VDDAREF (power), 52 VSSA/VREFL (power)

## MC68HC908AS60MFU
designator U?
8-Bit Microcontroller; Published: 17-Jan-2003; LatestRevisionDate: 13-Apr-2006; LatestRevisionNote: IPC-7351 Footprint Added.; DatasheetVersion: Rev 1.0, 2000; PackageVersion: rev2, 2000; PackageReference: 840B-01; Publisher: Altium Limited; PackageDescription: 64-Pin Quad Flat Pack 0.8 mm Pitch; Code_IPC: QFP80P1720X1720-64; ComponentLink1Description: Manufacturer Link; ComponentLink1URL: http://www.freescale.com/; ComponentLink2Description: Datasheet; ComponentLink2URL: http://www.freescale.com/files/microcontrollers/doc/data_sheet/MC68HC908AS60.pdf
footprint 840B-01_N (QFP, 64-Leads, Body 14x14mm, Pitch 0.8mm, IPC Medium Density)
footprint 840B-01_L (QFP, 64-Leads, Body 14x14mm, Pitch 0.8mm, IPC High Density)
footprint 840B-01_M (QFP, 64-Leads, Body 14x14mm, Pitch 0.8mm, IPC Low Density)
3D model MC68HC908-840B-01 (64-Pin Quad Flat Pack 0.8 mm Pitch)
pins: 1 PTC4 (io), 2 ~{IRQ} (in), 3 ~{RESET} (io), 4 PTF0/TACH2 (io), 5 PTF1/TACH3 (io), 6 PTF2/TACH4 (io), 7 PTF3/TACH5 (io), 8 PTF4 (io), 9 BDRXD (in), 10 BDTXD (out), 11 PTF5 (io), 12 PTF6 (io), 13 PTE0/TXD (io), 14 PTE1/RXD (io), 15 PTE2/TACH0 (io), 16 PTE3/TACH1 (io), 17 PTE4/~{SS} (io), 18 PTE5/MISO (io), 19 PTE6/MOSI (io), 20 PTE7/SPSCK (io), 21 VSS (power), 22 VDD (power), 23 PTG0 (io), 24 PTG1 (io), 25 PTG2 (io), 26 PTA0 (io), 27 PTA1 (io), 28 PTA2 (io), 29 PTA3 (io), 30 PTA4 (io), 31 PTA5 (io), 32 PTA6 (io), 33 PTA7 (io), 34 PTB0/ATD0 (io), 35 PTB1/ATD1 (io), 36 PTB2/ATD2 (io), 37 PTB3/ATD3 (io), 38 PTB4/ATD4 (io), 39 PTB5/ATD5 (io), 40 PTB6/ATD6 (io), 41 PTB7/ATD7 (io), 42 PTD0/ATD8 (io), 43 PTD1/ATD9 (io), 44 VDDAREF (power), 45 AVSS/VREFL (power), 46 PTD2/ATD10 (io), 47 PTD3/ATD11 (io), 48 PTH0 (io), 49 PTH1 (io), 50 PTD4/ATD12 (io), 51 PTD5/ATD13 (io), 52 PTD6/ATD14/TACLK (io), 53 PTD7 (io), 54 VREFH (in), 55 VDDA (power), 56 VSSA (power), 57 CGMXFC, 58 OSC2, 59 OSC1 (in), 60 PTC0 (io), 61 PTC1 (io), 62 PTC2/MCLK (io), 63 PTC3 (io), 64 PTC5 (io)

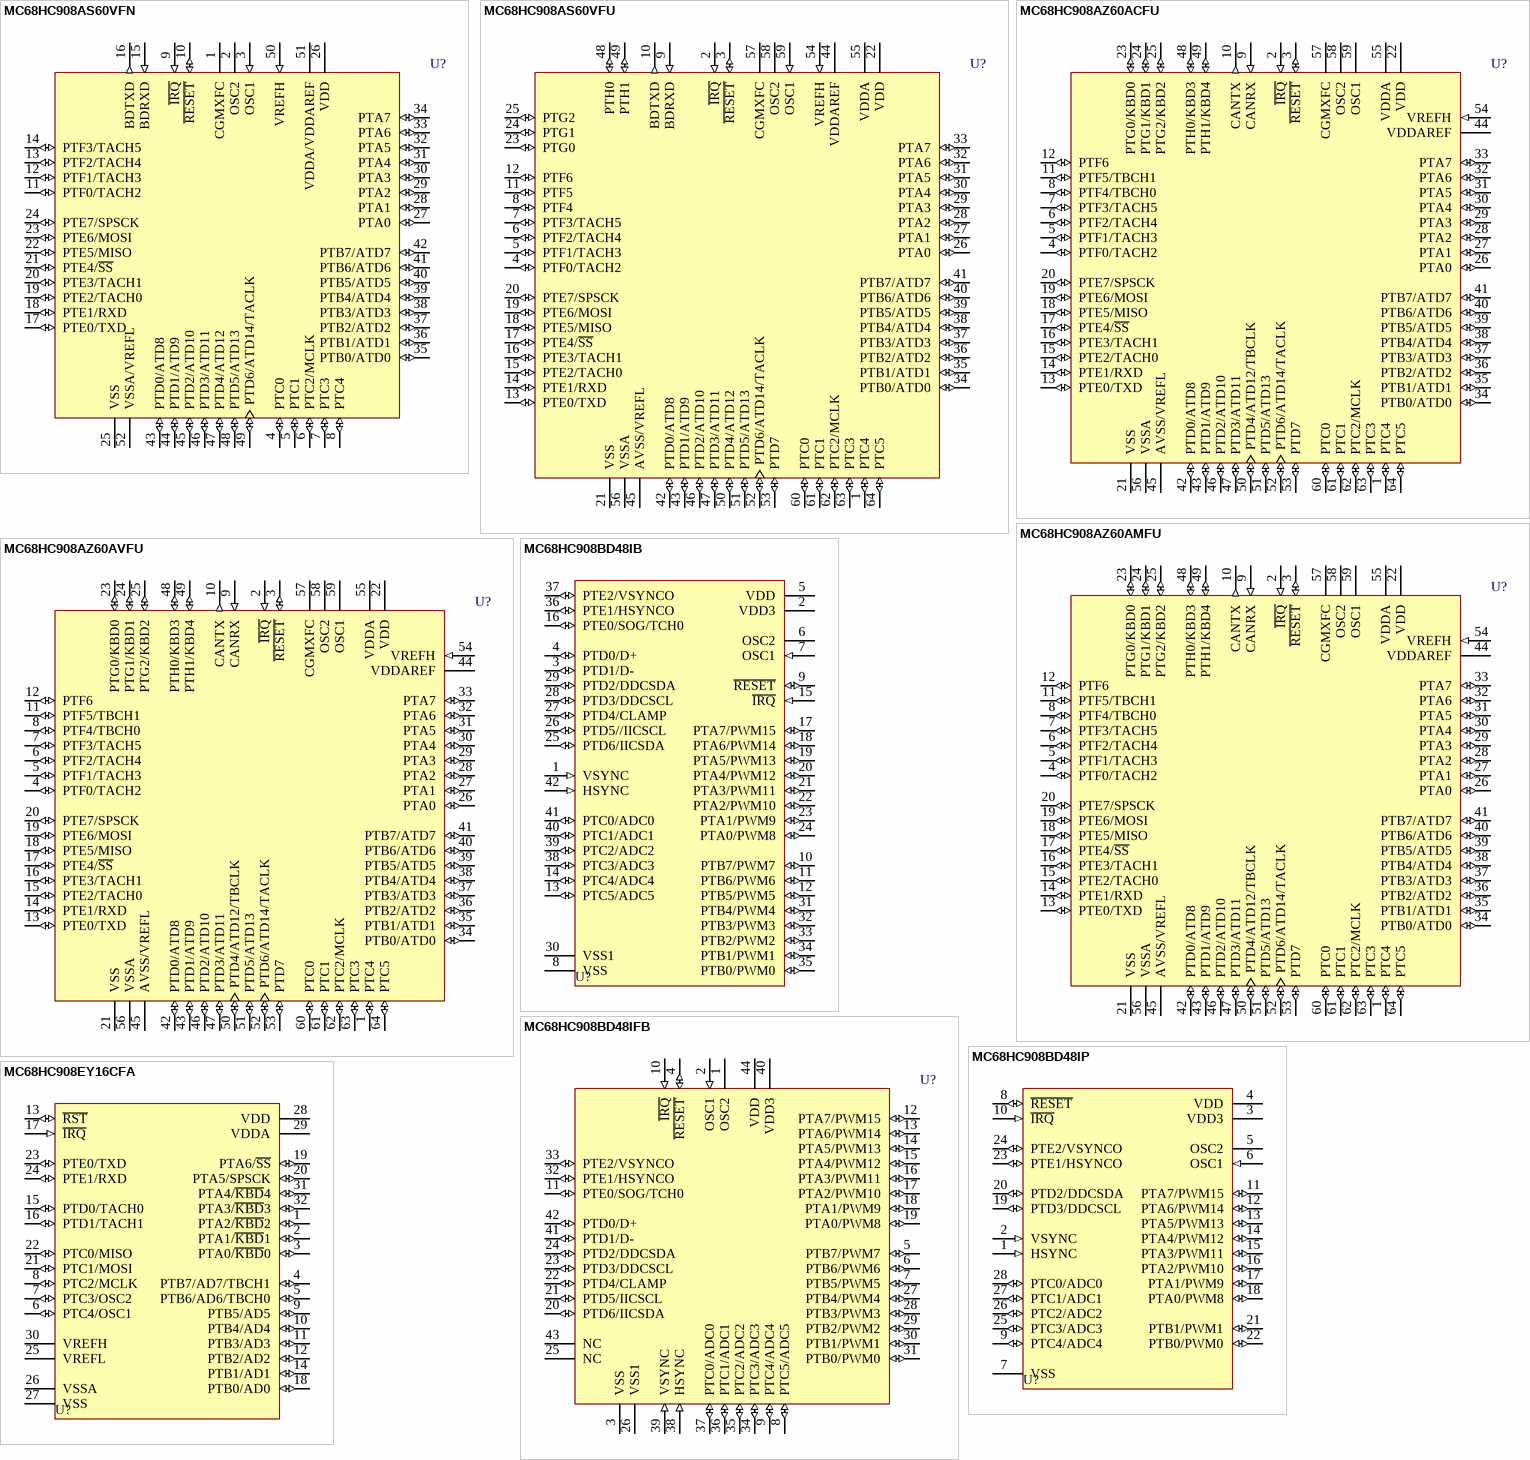
[diagram p92: symbols MC68HC908AS60VFN to MC68HC908EY16CFA]

## MC68HC908AS60VFN
designator U?
8-Bit Microcontroller; Published: 17-Jan-2003; LatestRevisionDate: 13-Apr-2006; LatestRevisionNote: IPC-7351 Footprint Added.; DatasheetVersion: Rev 1.0, 2000; PackageVersion: rev3, 1997; PackageReference: 778-02; Publisher: Altium Limited; PackageDescription: 52-Pin Plastic Leaded Chip Carrier 1.27 mm Pitch; ComponentLink1Description: Manufacturer Link; ComponentLink1URL: http://www.freescale.com/; ComponentLink2Description: Datasheet; ComponentLink2URL: http://www.freescale.com/files/microcontrollers/doc/data_sheet/MC68HC908AS60.pdf
footprint 778-02_N (Leaded Chip Carrier, 52-Leads, Body 19x19mm, Pitch 1.27mm, IPC Medium Density)
footprint 778-02_L (Leaded Chip Carrier, 52-Leads, Body 19x19mm, Pitch 1.27mm, IPC High Density)
footprint 778-02_M (Leaded Chip Carrier, 52-Leads, Body 19x19mm, Pitch 1.27mm, IPC Low Density)
3D model MC68HC908-778-02 (52-Pin Plastic Leaded Chip Carrier 1.27 mm Pitch)
pins: 1 CGMXFC, 2 OSC2, 3 OSC1 (in), 4 PTC0 (io), 5 PTC1 (io), 6 PTC2/MCLK (io), 7 PTC3 (io), 8 PTC4 (io), 9 ~{IRQ} (in), 10 ~{RESET} (io), 11 PTF0/TACH2 (io), 12 PTF1/TACH3 (io), 13 PTF2/TACH4 (io), 14 PTF3/TACH5 (io), 15 BDRXD (in), 16 BDTXD (out), 17 PTE0/TXD (io), 18 PTE1/RXD (io), 19 PTE2/TACH0 (io), 20 PTE3/TACH1 (io), 21 PTE4/~{SS} (io), 22 PTE5/MISO (io), 23 PTE6/MOSI (io), 24 PTE7/SPSCK (io), 25 VSS (power), 26 VDD (power), 27 PTA0 (io), 28 PTA1 (io), 29 PTA2 (io), 30 PTA3 (io), 31 PTA4 (io), 32 PTA5 (io), 33 PTA6 (io), 34 PTA7 (io), 35 PTB0/ATD0 (io), 36 PTB1/ATD1 (io), 37 PTB2/ATD2 (io), 38 PTB3/ATD3 (io), 39 PTB4/ATD4 (io), 40 PTB5/ATD5 (io), 41 PTB6/ATD6 (io), 42 PTB7/ATD7 (io), 43 PTD0/ATD8 (io), 44 PTD1/ATD9 (io), 45 PTD2/ATD10 (io), 46 PTD3/ATD11 (io), 47 PTD4/ATD12 (io), 48 PTD5/ATD13 (io), 49 PTD6/ATD14/TACLK (io), 50 VREFH (in), 51 VDDA/VDDAREF (power), 52 VSSA/VREFL (power)

## MC68HC908AS60VFU
designator U?
8-Bit Microcontroller; Published: 17-Jan-2003; LatestRevisionDate: 13-Apr-2006; LatestRevisionNote: IPC-7351 Footprint Added.; DatasheetVersion: Rev 1.0, 2000; PackageVersion: rev2, 2000; PackageReference: 840B-01; Publisher: Altium Limited; PackageDescription: 64-Pin Quad Flat Pack 0.8 mm Pitch; Code_IPC: QFP80P1720X1720-64; ComponentLink1Description: Manufacturer Link; ComponentLink1URL: http://www.freescale.com/; ComponentLink2Description: Datasheet; ComponentLink2URL: http://www.freescale.com/files/microcontrollers/doc/data_sheet/MC68HC908AS60.pdf
footprint 840B-01_N (QFP, 64-Leads, Body 14x14mm, Pitch 0.8mm, IPC Medium Density)
footprint 840B-01_L (QFP, 64-Leads, Body 14x14mm, Pitch 0.8mm, IPC High Density)
footprint 840B-01_M (QFP, 64-Leads, Body 14x14mm, Pitch 0.8mm, IPC Low Density)
3D model MC68HC908-840B-01 (64-Pin Quad Flat Pack 0.8 mm Pitch)
pins: 1 PTC4 (io), 2 ~{IRQ} (in), 3 ~{RESET} (io), 4 PTF0/TACH2 (io), 5 PTF1/TACH3 (io), 6 PTF2/TACH4 (io), 7 PTF3/TACH5 (io), 8 PTF4 (io), 9 BDRXD (in), 10 BDTXD (out), 11 PTF5 (io), 12 PTF6 (io), 13 PTE0/TXD (io), 14 PTE1/RXD (io), 15 PTE2/TACH0 (io), 16 PTE3/TACH1 (io), 17 PTE4/~{SS} (io), 18 PTE5/MISO (io), 19 PTE6/MOSI (io), 20 PTE7/SPSCK (io), 21 VSS (power), 22 VDD (power), 23 PTG0 (io), 24 PTG1 (io), 25 PTG2 (io), 26 PTA0 (io), 27 PTA1 (io), 28 PTA2 (io), 29 PTA3 (io), 30 PTA4 (io), 31 PTA5 (io), 32 PTA6 (io), 33 PTA7 (io), 34 PTB0/ATD0 (io), 35 PTB1/ATD1 (io), 36 PTB2/ATD2 (io), 37 PTB3/ATD3 (io), 38 PTB4/ATD4 (io), 39 PTB5/ATD5 (io), 40 PTB6/ATD6 (io), 41 PTB7/ATD7 (io), 42 PTD0/ATD8 (io), 43 PTD1/ATD9 (io), 44 VDDAREF (power), 45 AVSS/VREFL (power), 46 PTD2/ATD10 (io), 47 PTD3/ATD11 (io), 48 PTH0 (io), 49 PTH1 (io), 50 PTD4/ATD12 (io), 51 PTD5/ATD13 (io), 52 PTD6/ATD14/TACLK (io), 53 PTD7 (io), 54 VREFH (in), 55 VDDA (power), 56 VSSA (power), 57 CGMXFC, 58 OSC2, 59 OSC1 (in), 60 PTC0 (io), 61 PTC1 (io), 62 PTC2/MCLK (io), 63 PTC3 (io), 64 PTC5 (io)

## MC68HC908AZ60ACFU
designator U?
8-Bit Microcontroller; Published: 17-Jan-2003; LatestRevisionDate: 13-Apr-2006; LatestRevisionNote: IPC-7351 Footprint Added.; DatasheetVersion: Rev 2, 2001; PackageVersion: rev2, 2000; PackageReference: 840B-01; Publisher: Altium Limited; PackageDescription: 64-Pin Quad Flat Pack 0.8 mm Pitch; Code_IPC: QFP80P1720X1720-64; ComponentLink1Description: Manufacturer Link; ComponentLink1URL: http://www.freescale.com/
footprint 840B-01_N (QFP, 64-Leads, Body 14x14mm, Pitch 0.8mm, IPC Medium Density)
footprint 840B-01_L (QFP, 64-Leads, Body 14x14mm, Pitch 0.8mm, IPC High Density)
footprint 840B-01_M (QFP, 64-Leads, Body 14x14mm, Pitch 0.8mm, IPC Low Density)
3D model MC68HC908-840B-01 (64-Pin Quad Flat Pack 0.8 mm Pitch)
pins: 1 PTC4 (io), 2 ~{IRQ} (in), 3 ~{RESET} (io), 4 PTF0/TACH2 (io), 5 PTF1/TACH3 (io), 6 PTF2/TACH4 (io), 7 PTF3/TACH5 (io), 8 PTF4/TBCH0 (io), 9 CANRX (in), 10 CANTX (out), 11 PTF5/TBCH1 (io), 12 PTF6 (io), 13 PTE0/TXD (io), 14 PTE1/RXD (io), 15 PTE2/TACH0 (io), 16 PTE3/TACH1 (io), 17 PTE4/~{SS} (io), 18 PTE5/MISO (io), 19 PTE6/MOSI (io), 20 PTE7/SPSCK (io), 21 VSS (power), 22 VDD (power), 23 PTG0/KBD0 (io), 24 PTG1/KBD1 (io), 25 PTG2/KBD2 (io), 26 PTA0 (io), 27 PTA1 (io), 28 PTA2 (io), 29 PTA3 (io), 30 PTA4 (io), 31 PTA5 (io), 32 PTA6 (io), 33 PTA7 (io), 34 PTB0/ATD0 (io), 35 PTB1/ATD1 (io), 36 PTB2/ATD2 (io), 37 PTB3/ATD3 (io), 38 PTB4/ATD4 (io), 39 PTB5/ATD5 (io), 40 PTB6/ATD6 (io), 41 PTB7/ATD7 (io), 42 PTD0/ATD8 (io), 43 PTD1/ATD9 (io), 44 VDDAREF (power), 45 AVSS/VREFL (power), 46 PTD2/ATD10 (io), 47 PTD3/ATD11 (io), 48 PTH0/KBD3 (io), 49 PTH1/KBD4 (io), 50 PTD4/ATD12/TBCLK (io), 51 PTD5/ATD13 (io), 52 PTD6/ATD14/TACLK (io), 53 PTD7 (io), 54 VREFH (in), 55 VDDA (power), 56 VSSA (power), 57 CGMXFC, 58 OSC2, 59 OSC1, 60 PTC0 (io), 61 PTC1 (io), 62 PTC2/MCLK (io), 63 PTC3 (io), 64 PTC5 (io)

## MC68HC908AZ60AMFU
designator U?
8-Bit Microcontroller; Published: 17-Jan-2003; LatestRevisionDate: 13-Apr-2006; LatestRevisionNote: IPC-7351 Footprint Added.; DatasheetVersion: Rev 2, 2001; PackageVersion: rev2, 2000; PackageReference: 840B-01; Publisher: Altium Limited; PackageDescription: 64-Pin Quad Flat Pack 0.8 mm Pitch; Code_IPC: QFP80P1720X1720-64; ComponentLink1Description: Manufacturer Link; ComponentLink1URL: http://www.freescale.com/
footprint 840B-01_N (QFP, 64-Leads, Body 14x14mm, Pitch 0.8mm, IPC Medium Density)
footprint 840B-01_L (QFP, 64-Leads, Body 14x14mm, Pitch 0.8mm, IPC High Density)
footprint 840B-01_M (QFP, 64-Leads, Body 14x14mm, Pitch 0.8mm, IPC Low Density)
3D model MC68HC908-840B-01 (64-Pin Quad Flat Pack 0.8 mm Pitch)
pins: 1 PTC4 (io), 2 ~{IRQ} (in), 3 ~{RESET} (io), 4 PTF0/TACH2 (io), 5 PTF1/TACH3 (io), 6 PTF2/TACH4 (io), 7 PTF3/TACH5 (io), 8 PTF4/TBCH0 (io), 9 CANRX (in), 10 CANTX (out), 11 PTF5/TBCH1 (io), 12 PTF6 (io), 13 PTE0/TXD (io), 14 PTE1/RXD (io), 15 PTE2/TACH0 (io), 16 PTE3/TACH1 (io), 17 PTE4/~{SS} (io), 18 PTE5/MISO (io), 19 PTE6/MOSI (io), 20 PTE7/SPSCK (io), 21 VSS (power), 22 VDD (power), 23 PTG0/KBD0 (io), 24 PTG1/KBD1 (io), 25 PTG2/KBD2 (io), 26 PTA0 (io), 27 PTA1 (io), 28 PTA2 (io), 29 PTA3 (io), 30 PTA4 (io), 31 PTA5 (io), 32 PTA6 (io), 33 PTA7 (io), 34 PTB0/ATD0 (io), 35 PTB1/ATD1 (io), 36 PTB2/ATD2 (io), 37 PTB3/ATD3 (io), 38 PTB4/ATD4 (io), 39 PTB5/ATD5 (io), 40 PTB6/ATD6 (io), 41 PTB7/ATD7 (io), 42 PTD0/ATD8 (io), 43 PTD1/ATD9 (io), 44 VDDAREF (power), 45 AVSS/VREFL (power), 46 PTD2/ATD10 (io), 47 PTD3/ATD11 (io), 48 PTH0/KBD3 (io), 49 PTH1/KBD4 (io), 50 PTD4/ATD12/TBCLK (io), 51 PTD5/ATD13 (io), 52 PTD6/ATD14/TACLK (io), 53 PTD7 (io), 54 VREFH (in), 55 VDDA (power), 56 VSSA (power), 57 CGMXFC, 58 OSC2, 59 OSC1, 60 PTC0 (io), 61 PTC1 (io), 62 PTC2/MCLK (io), 63 PTC3 (io), 64 PTC5 (io)

## MC68HC908AZ60AVFU
designator U?
8-Bit Microcontroller; Published: 17-Jan-2003; LatestRevisionDate: 13-Apr-2006; LatestRevisionNote: IPC-7351 Footprint Added.; DatasheetVersion: Rev 2, 2001; PackageVersion: rev2, 2000; PackageReference: 840B-01; Publisher: Altium Limited; PackageDescription: 64-Pin Quad Flat Pack 0.8 mm Pitch; Code_IPC: QFP80P1720X1720-64; ComponentLink1Description: Manufacturer Link; ComponentLink1URL: http://www.freescale.com/
footprint 840B-01_N (QFP, 64-Leads, Body 14x14mm, Pitch 0.8mm, IPC Medium Density)
footprint 840B-01_L (QFP, 64-Leads, Body 14x14mm, Pitch 0.8mm, IPC High Density)
footprint 840B-01_M (QFP, 64-Leads, Body 14x14mm, Pitch 0.8mm, IPC Low Density)
3D model MC68HC908-840B-01 (64-Pin Quad Flat Pack 0.8 mm Pitch)
pins: 1 PTC4 (io), 2 ~{IRQ} (in), 3 ~{RESET} (io), 4 PTF0/TACH2 (io), 5 PTF1/TACH3 (io), 6 PTF2/TACH4 (io), 7 PTF3/TACH5 (io), 8 PTF4/TBCH0 (io), 9 CANRX (in), 10 CANTX (out), 11 PTF5/TBCH1 (io), 12 PTF6 (io), 13 PTE0/TXD (io), 14 PTE1/RXD (io), 15 PTE2/TACH0 (io), 16 PTE3/TACH1 (io), 17 PTE4/~{SS} (io), 18 PTE5/MISO (io), 19 PTE6/MOSI (io), 20 PTE7/SPSCK (io), 21 VSS (power), 22 VDD (power), 23 PTG0/KBD0 (io), 24 PTG1/KBD1 (io), 25 PTG2/KBD2 (io), 26 PTA0 (io), 27 PTA1 (io), 28 PTA2 (io), 29 PTA3 (io), 30 PTA4 (io), 31 PTA5 (io), 32 PTA6 (io), 33 PTA7 (io), 34 PTB0/ATD0 (io), 35 PTB1/ATD1 (io), 36 PTB2/ATD2 (io), 37 PTB3/ATD3 (io), 38 PTB4/ATD4 (io), 39 PTB5/ATD5 (io), 40 PTB6/ATD6 (io), 41 PTB7/ATD7 (io), 42 PTD0/ATD8 (io), 43 PTD1/ATD9 (io), 44 VDDAREF (power), 45 AVSS/VREFL (power), 46 PTD2/ATD10 (io), 47 PTD3/ATD11 (io), 48 PTH0/KBD3 (io), 49 PTH1/KBD4 (io), 50 PTD4/ATD12/TBCLK (io), 51 PTD5/ATD13 (io), 52 PTD6/ATD14/TACLK (io), 53 PTD7 (io), 54 VREFH (in), 55 VDDA (power), 56 VSSA (power), 57 CGMXFC, 58 OSC2, 59 OSC1, 60 PTC0 (io), 61 PTC1 (io), 62 PTC2/MCLK (io), 63 PTC3 (io), 64 PTC5 (io)

## MC68HC908BD48IB
designator U?
8-Bit Microcontroller; Note: PDT0, PDT1, OSC1 and OSC2 are 3.3V pins.; Note: Tie unused inputs & I/O ports to the appropriate logic level (either VDD or VSS ) to reduce the possibility of electro-static discharge damage.; Published: 17-Jan-2003; LatestRevisionDate: 06-Jun-2005; LatestRevisionNote: Stylized 3D Model Added.; DatasheetVersion: Rev 1.0, 2000; PackageVersion: rev5, Apr-2002; PackageReference: 858-01; Publisher: Altium Limited; PackageDescription: DIP, Plastic; 42 Leads; Row Spacing 15.24 mm; Pitch 1.778 mm; ComponentLink1Description: Manufacturer Link; ComponentLink1URL: http://www.freescale.com/; ComponentLink2Description: Datasheet; ComponentLink2URL: http://www.freescale.com/files/microcontrollers/doc/data_sheet/MC68HC908BD48.pdf
footprint 858-01 (DIP, Plastic; 42 Leads; Row Spacing 15.24 mm; Pitch 1.778 mm)
3D model 858-01 (DIP, Plastic; 42 Leads; Row Spacing 15.24 mm; Pitch 1.778 mm)
pins: 1 VSYNC (in), 2 VDD3 (power), 3 PTD1/D- (io), 4 PTD0/D+ (io), 5 VDD (power), 6 OSC2, 7 OSC1 (in), 8 VSS (power), 9 ~{RESET} (io), 10 PTB7/PWM7 (io), 11 PTB6/PWM6 (io), 12 PTB5/PWM5 (io), 13 PTC5/ADC5 (io), 14 PTC4/ADC4 (io), 15 ~{IRQ} (in), 16 PTE0/SOG/TCH0 (io), 17 PTA7/PWM15 (io), 18 PTA6/PWM14 (io), 19 PTA5/PWM13 (io), 20 PTA4/PWM12 (io), 21 PTA3/PWM11 (io), 22 PTA2/PWM10 (io), 23 PTA1/PWM9 (io), 24 PTA0/PWM8 (io), 25 PTD6/IICSDA (io), 26 PTD5//IICSCL (io), 27 PTD4/CLAMP (io), 28 PTD3/DDCSCL (io), 29 PTD2/DDCSDA (io), 30 VSS1 (power), 31 PTB4/PWM4 (io), 32 PTB3/PWM3 (io), 33 PTB2/PWM2 (io), 34 PTB1/PWM1 (io), 35 PTB0/PWM0 (io), 36 PTE1/HSYNCO (io), 37 PTE2/VSYNCO (io), 38 PTC3/ADC3 (io), 39 PTC2/ADC2 (io), 40 PTC1/ADC1 (io), 41 PTC0/ADC0 (io), 42 HSYNC (in)

## MC68HC908BD48IFB
designator U?
8-Bit Microcontroller; Note: PDT0, PDT1, OSC1 and OSC2 are 3.3V pins.; Note: Tie unused inputs & I/O ports to the appropriate logic level (either VDD or VSS ) to reduce the possibility of electro-static discharge damage.; Published: 17-Jan-2003; LatestRevisionDate: 13-Apr-2006; LatestRevisionNote: IPC-7351 Footprint Added.; DatasheetVersion: Rev 1.0, 2000; PackageVersion: rev1.0, 2000; PackageReference: 824E-02; Publisher: Altium Limited; PackageDescription: 44-Pin Plastic Quad Flat Pack 0.8 mm Pitch; Code_JEDEC: MS-022-AB; Code_IPC: QFP80P1320X1320-44; ComponentLink1Description: Manufacturer Link; ComponentLink1URL: http://www.freescale.com/; ComponentLink2Description: Datasheet; ComponentLink2URL: http://www.freescale.com/files/microcontrollers/doc/data_sheet/MC68HC908BD48.pdf
footprint 824E-02_N (QFP, 44-Leads, Body 10x10mm, Pitch 0.8mm, IPC Medium Density)
footprint 824E-02_L (QFP, 44-Leads, Body 10x10mm, Pitch 0.8mm, IPC High Density)
footprint 824E-02_M (QFP, 44-Leads, Body 10x10mm, Pitch 0.8mm, IPC Low Density)
3D model MC68HC908-824A-01 (44-Pin Plastic Quad Flat Pack 0.8 mm Pitch)
pins: 1 OSC2, 2 OSC1 (in), 3 VSS (power), 4 ~{RESET} (io), 5 PTB7/PWM7 (io), 6 PTB6/PWM6 (io), 7 PTB5/PWM5 (io), 8 PTC5/ADC5 (io), 9 PTC4/ADC4 (io), 10 ~{IRQ} (in), 11 PTE0/SOG/TCH0 (io), 12 PTA7/PWM15 (io), 13 PTA6/PWM14 (io), 14 PTA5/PWM13 (io), 15 PTA4/PWM12 (io), 16 PTA3/PWM11 (io), 17 PTA2/PWM10 (io), 18 PTA1/PWM9 (io), 19 PTA0/PWM8 (io), 20 PTD6/IICSDA (io), 21 PTD5/IICSCL (io), 22 PTD4/CLAMP (io), 23 PTD3/DDCSCL (io), 24 PTD2/DDCSDA (io), 25 NC, 26 VSS1 (power), 27 PTB4/PWM4 (io), 28 PTB3/PWM3 (io), 29 PTB2/PWM2 (io), 30 PTB1/PWM1 (io), 31 PTB0/PWM0 (io), 32 PTE1/HSYNCO (io), 33 PTE2/VSYNCO (io), 34 PTC3/ADC3 (io), 35 PTC2/ADC2 (io), 36 PTC1/ADC1 (io), 37 PTC0/ADC0 (io), 38 HSYNC (in), 39 VSYNC (in), 40 VDD3 (power), 41 PTD1/D- (io), 42 PTD0/D+ (io), 43 NC, 44 VDD (power)

## MC68HC908BD48IP
designator U?
8-Bit Microcontroller; Note: Tie unused inputs & I/O ports to the appropriate logic level (either VDD or VSS ) to reduce the possibility of electro-static discharge damage.; Published: 17-Jan-2003; LatestRevisionDate: 06-Jun-2005; LatestRevisionNote: Stylized 3D Model Added.; DatasheetVersion: Rev 1.0, 2000; PackageReference: 710-02; Publisher: Altium Limited; PackageDescription: DIP; 28 Leads; Row Spacing 15.24 mm; Pitch 2.54 mm; ComponentLink1Description: Manufacturer Link; ComponentLink1URL: http://www.freescale.com/; ComponentLink2Description: Datasheet; ComponentLink2URL: http://www.freescale.com/files/microcontrollers/doc/data_sheet/MC68HC908BD48.pdf
footprint 710-02 (DIP; 28 Leads; Row Spacing 15.24 mm; Pitch 2.54 mm)
3D model 710-02 (DIP; 28 Leads; Row Spacing 15.24 mm; Pitch 2.54 mm)
pins: 1 HSYNC (in), 2 VSYNC (in), 3 VDD3 (power), 4 VDD (power), 5 OSC2, 6 OSC1 (in), 7 VSS (power), 8 ~{RESET} (io), 9 PTC4/ADC4 (io), 10 ~{IRQ} (in), 11 PTA7/PWM15 (io), 12 PTA6/PWM14 (io), 13 PTA5/PWM13 (io), 14 PTA4/PWM12 (io), 15 PTA3/PWM11 (io), 16 PTA2/PWM10 (io), 17 PTA1/PWM9 (io), 18 PTA0/PWM8 (io), 19 PTD3/DDCSCL (io), 20 PTD2/DDCSDA (io), 21 PTB1/PWM1 (io), 22 PTB0/PWM0 (io), 23 PTE1/HSYNCO (io), 24 PTE2/VSYNCO (io), 25 PTC3/ADC3 (io), 26 PTC2/ADC2 (io), 27 PTC1/ADC1 (io), 28 PTC0/ADC0 (io)

## MC68HC908EY16CFA
designator U?
8-Bit Microcontroller; Note: VDDA should be tied to the same potential as VDD via separate traces.  VSSA should be tied to the same potential as VSS via separate traces.; Note: Tie unused inputs & I/O ports to the appropriate logic level (either VDD or VSS ) to reduce the possibility of electro-static discharge damage.; Published: 17-Jan-2003; LatestRevisionDate: 13-Apr-2006; LatestRevisionNote: IPC-7351 Footprint Added.; DatasheetVersion: Rev 2.0, 6/2002; PackageVersion: May-1997; PackageReference: 873-01; Publisher: Altium Limited; PackageDescription: 32-Pin Thin Quad Flat Pack 0.8 mm Pitch; ComponentLink1Description: Manufacturer Link; ComponentLink1URL: http://www.freescale.com/; ComponentLink2Description: Datasheet; ComponentLink2URL: http://www.freescale.com/files/microcontrollers/doc/data_sheet/MC68HC908EY16.pdf
footprint 873-01_N (Thin QFP, 32-Leads, Body 7x7mm, Pitch 0.8mm, IPC Medium Density)
footprint 873-01_L (Thin QFP, 32-Leads, Body 7x7mm, Pitch 0.8mm, IPC High Density)
footprint 873-01_M (Thin QFP, 32-Leads, Body 7x7mm, Pitch 0.8mm, IPC Low Density)
3D model MC68HC908-873-01 (32-Pin Thin Quad Flat Pack 0.8 mm Pitch)
pins: 1 PTA2/~{KBD}2 (io), 2 PTA1/~{KBD}1 (io), 3 PTA0/~{KBD}0 (io), 4 PTB7/AD7/TBCH1 (io), 5 PTB6/AD6/TBCH0 (io), 6 PTC4/OSC1 (io), 7 PTC3/OSC2 (io), 8 PTC2/MCLK (io), 9 PTB5/AD5 (io), 10 PTB4/AD4 (io), 11 PTB3/AD3 (io), 12 PTB2/AD2 (io), 13 ~{RST} (io), 14 PTB1/AD1 (io), 15 PTD0/TACH0 (io), 16 PTD1/TACH1 (io), 17 ~{IRQ} (in), 18 PTB0/AD0 (io), 19 PTA6/~{SS} (io), 20 PTA5/SPSCK (io), 21 PTC1/MOSI (io), 22 PTC0/MISO (io), 23 PTE0/TXD (io), 24 PTE1/RXD (io), 25 VREFL (power), 26 VSSA (power), 27 VSS (power), 28 VDD (power), 29 VDDA (power), 30 VREFH (power), 31 PTA4/~{KBD}4 (io), 32 PTA3/~{KBD}3 (io)

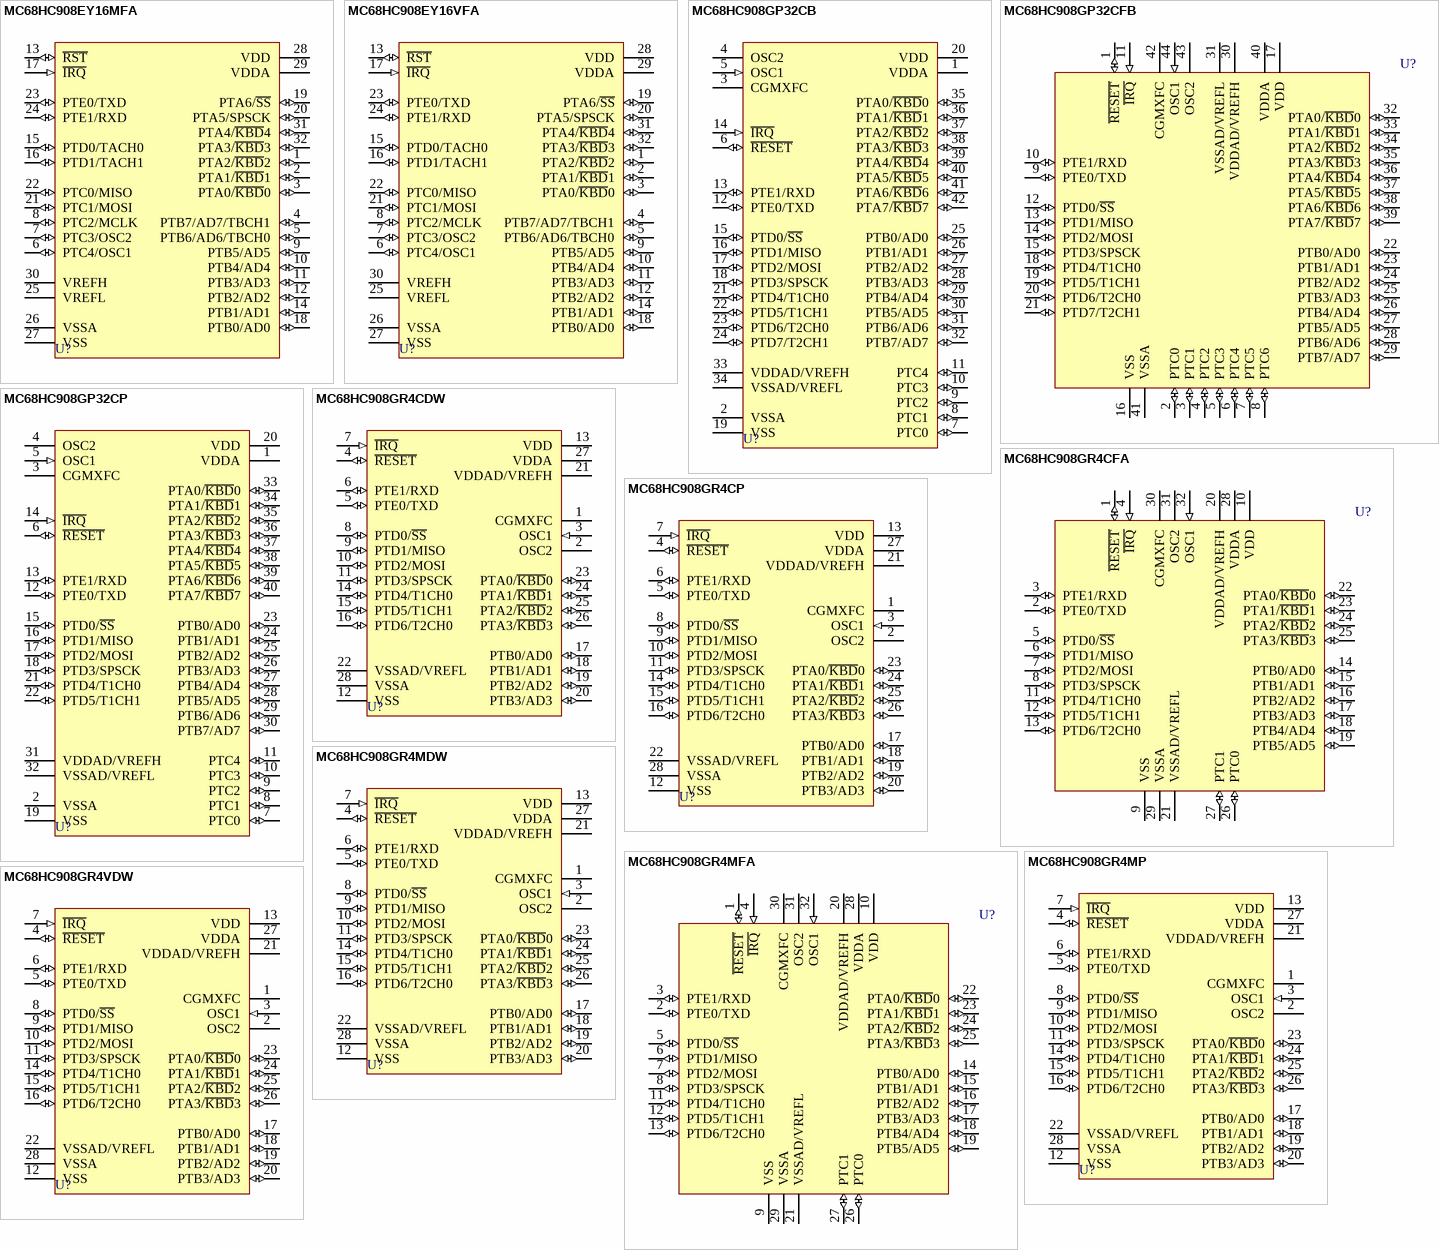
[diagram p93: symbols MC68HC908EY16MFA to MC68HC908GR4VDW]

## MC68HC908EY16MFA
designator U?
8-Bit Microcontroller; Note: VDDA should be tied to the same potential as VDD via separate traces.  VSSA should be tied to the same potential as VSS via separate traces.; Note: Tie unused inputs & I/O ports to the appropriate logic level (either VDD or VSS ) to reduce the possibility of electro-static discharge damage.; Published: 17-Jan-2003; LatestRevisionDate: 13-Apr-2006; LatestRevisionNote: IPC-7351 Footprint Added.; DatasheetVersion: Rev 2.0, 6/2002; PackageVersion: May-1997; PackageReference: 873-01; Publisher: Altium Limited; PackageDescription: 32-Pin Thin Quad Flat Pack 0.8 mm Pitch; ComponentLink1Description: Manufacturer Link; ComponentLink1URL: http://www.freescale.com/; ComponentLink2Description: Datasheet; ComponentLink2URL: http://www.freescale.com/files/microcontrollers/doc/data_sheet/MC68HC908EY16.pdf
footprint 873-01_N (Thin QFP, 32-Leads, Body 7x7mm, Pitch 0.8mm, IPC Medium Density)
footprint 873-01_L (Thin QFP, 32-Leads, Body 7x7mm, Pitch 0.8mm, IPC High Density)
footprint 873-01_M (Thin QFP, 32-Leads, Body 7x7mm, Pitch 0.8mm, IPC Low Density)
3D model MC68HC908-873-01 (32-Pin Thin Quad Flat Pack 0.8 mm Pitch)
pins: 1 PTA2/~{KBD}2 (io), 2 PTA1/~{KBD}1 (io), 3 PTA0/~{KBD}0 (io), 4 PTB7/AD7/TBCH1 (io), 5 PTB6/AD6/TBCH0 (io), 6 PTC4/OSC1 (io), 7 PTC3/OSC2 (io), 8 PTC2/MCLK (io), 9 PTB5/AD5 (io), 10 PTB4/AD4 (io), 11 PTB3/AD3 (io), 12 PTB2/AD2 (io), 13 ~{RST} (io), 14 PTB1/AD1 (io), 15 PTD0/TACH0 (io), 16 PTD1/TACH1 (io), 17 ~{IRQ} (in), 18 PTB0/AD0 (io), 19 PTA6/~{SS} (io), 20 PTA5/SPSCK (io), 21 PTC1/MOSI (io), 22 PTC0/MISO (io), 23 PTE0/TXD (io), 24 PTE1/RXD (io), 25 VREFL (power), 26 VSSA (power), 27 VSS (power), 28 VDD (power), 29 VDDA (power), 30 VREFH (power), 31 PTA4/~{KBD}4 (io), 32 PTA3/~{KBD}3 (io)

## MC68HC908EY16VFA
designator U?
8-Bit Microcontroller; Note: VDDA should be tied to the same potential as VDD via separate traces.  VSSA should be tied to the same potential as VSS via separate traces.; Note: Tie unused inputs & I/O ports to the appropriate logic level (either VDD or VSS ) to reduce the possibility of electro-static discharge damage.; Published: 17-Jan-2003; LatestRevisionDate: 13-Apr-2006; LatestRevisionNote: IPC-7351 Footprint Added.; DatasheetVersion: Rev 2.0, 6/2002; PackageVersion: May-1997; PackageReference: 873-01; Publisher: Altium Limited; PackageDescription: 32-Pin Thin Quad Flat Pack 0.8 mm Pitch; ComponentLink1Description: Manufacturer Link; ComponentLink1URL: http://www.freescale.com/; ComponentLink2Description: Datasheet; ComponentLink2URL: http://www.freescale.com/files/microcontrollers/doc/data_sheet/MC68HC908EY16.pdf
footprint 873-01_N (Thin QFP, 32-Leads, Body 7x7mm, Pitch 0.8mm, IPC Medium Density)
footprint 873-01_L (Thin QFP, 32-Leads, Body 7x7mm, Pitch 0.8mm, IPC High Density)
footprint 873-01_M (Thin QFP, 32-Leads, Body 7x7mm, Pitch 0.8mm, IPC Low Density)
3D model MC68HC908-873-01 (32-Pin Thin Quad Flat Pack 0.8 mm Pitch)
pins: 1 PTA2/~{KBD}2 (io), 2 PTA1/~{KBD}1 (io), 3 PTA0/~{KBD}0 (io), 4 PTB7/AD7/TBCH1 (io), 5 PTB6/AD6/TBCH0 (io), 6 PTC4/OSC1 (io), 7 PTC3/OSC2 (io), 8 PTC2/MCLK (io), 9 PTB5/AD5 (io), 10 PTB4/AD4 (io), 11 PTB3/AD3 (io), 12 PTB2/AD2 (io), 13 ~{RST} (io), 14 PTB1/AD1 (io), 15 PTD0/TACH0 (io), 16 PTD1/TACH1 (io), 17 ~{IRQ} (in), 18 PTB0/AD0 (io), 19 PTA6/~{SS} (io), 20 PTA5/SPSCK (io), 21 PTC1/MOSI (io), 22 PTC0/MISO (io), 23 PTE0/TXD (io), 24 PTE1/RXD (io), 25 VREFL (power), 26 VSSA (power), 27 VSS (power), 28 VDD (power), 29 VDDA (power), 30 VREFH (power), 31 PTA4/~{KBD}4 (io), 32 PTA3/~{KBD}3 (io)

## MC68HC908GP32CB
designator U?
8-Bit Microcontroller; Note: Tie unused inputs & I/O ports to the appropriate logic level (either VDD or VSS ) to reduce the possibility of electro-static discharge damage.; Published: 17-Jan-2003; LatestRevisionDate: 06-Jun-2005; LatestRevisionNote: Stylized 3D Model Added.; DatasheetVersion: Rev 6, 8/2002; PackageVersion: rev5, Apr-2002; PackageReference: 858-01; Publisher: Altium Limited; PackageDescription: DIP, Plastic; 42 Leads; Row Spacing 15.24 mm; Pitch 1.778 mm; ComponentLink1Description: Manufacturer Link; ComponentLink1URL: http://www.freescale.com/; ComponentLink2Description: Datasheet; ComponentLink2URL: http://www.freescale.com/files/microcontrollers/doc/data_sheet/MC68HC908GP32.pdf
footprint 858-01 (DIP, Plastic; 42 Leads; Row Spacing 15.24 mm; Pitch 1.778 mm)
3D model 858-01 (DIP, Plastic; 42 Leads; Row Spacing 15.24 mm; Pitch 1.778 mm)
pins: 1 VDDA (power), 2 VSSA (power), 3 CGMXFC, 4 OSC2, 5 OSC1 (in), 6 ~{RESET} (io), 7 PTC0 (io), 8 PTC1 (io), 9 PTC2 (io), 10 PTC3 (io), 11 PTC4 (io), 12 PTE0/TXD (io), 13 PTE1/RXD (io), 14 ~{IRQ} (in), 15 PTD0/~{SS} (io), 16 PTD1/MISO (io), 17 PTD2/MOSI (io), 18 PTD3/SPSCK (io), 19 VSS (power), 20 VDD (power), 21 PTD4/T1CH0 (io), 22 PTD5/T1CH1 (io), 23 PTD6/T2CH0 (io), 24 PTD7/T2CH1 (io), 25 PTB0/AD0 (io), 26 PTB1/AD1 (io), 27 PTB2/AD2 (io), 28 PTB3/AD3 (io), 29 PTB4/AD4 (io), 30 PTB5/AD5 (io), 31 PTB6/AD6 (io), 32 PTB7/AD7 (io), 33 VDDAD/VREFH (power), 34 VSSAD/VREFL (power), 35 PTA0/~{KBD}0 (io), 36 PTA1/~{KBD}1 (io), 37 PTA2/~{KBD}2 (io), 38 PTA3/~{KBD}3 (io), 39 PTA4/~{KBD}4 (io), 40 PTA5/~{KBD}5 (io), 41 PTA6/~{KBD}6 (io), 42 PTA7/~{KBD}7 (io)